# Altium schematic symbol library Angler.SchLib: 199 symbols (part 1 of 2)
Pins are listed as number, name and electrical type; pins without a type are passive.

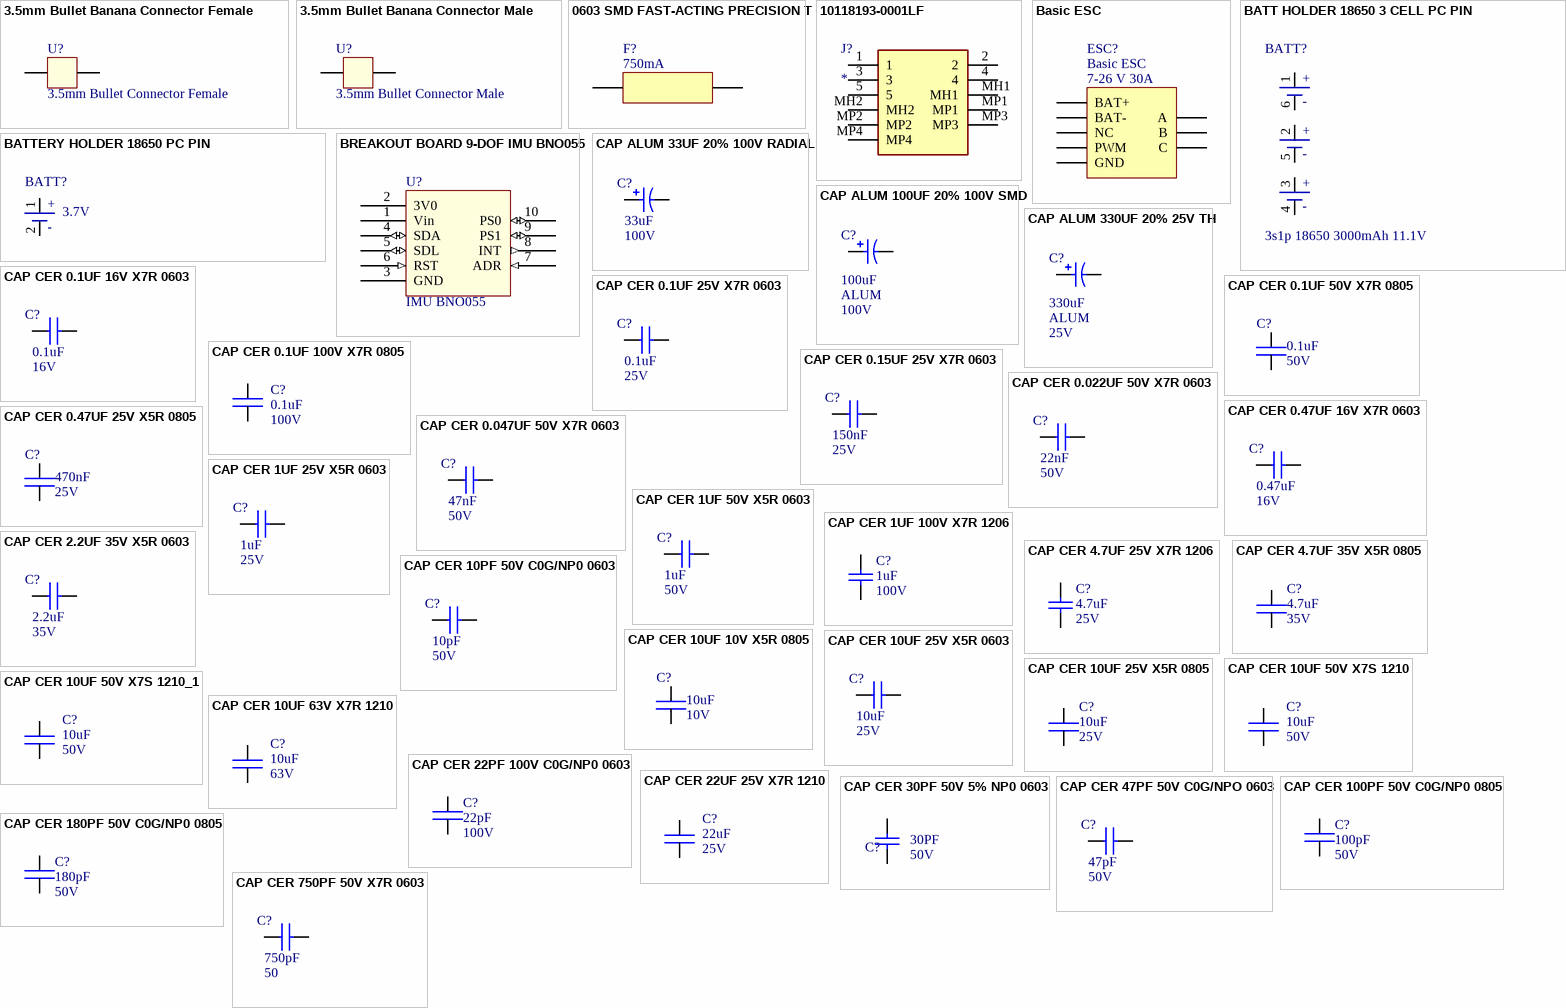
[diagram p0: symbols 3.5mm Bullet Banana Connector Female to CAP CER 750PF 50V X7R 0603]

## 3.5mm Bullet Banana Connector Female
designator U?  value 3.5mm Bullet Connector Female
3.5mm Bullet Banana Connector Female; MFG_PART_NO: B07H3H7Q68; COST1K: 11.50; MFG: ROBOJAX; ROHS: Y
pins: ?1 (power), ?2 (power)

## 3.5mm Bullet Banana Connector Male
designator U?  value 3.5mm Bullet Connector Male
3.5mm Bullet Banana Connector Male; MFG_PART_NO: B07H3H7Q68; COST1K: 11.50; MFG: ROBOJAX; ROHS: Y
pins: ?1 (power), ?2 (power)

## 0603 SMD FAST-ACTING PRECISION T
designator F?  value 750mA
0603 SMD FAST-ACTING PRECISION T; MFG_PART_NO: SF-0603FP075F-2; COST1K: 0.65; MFG: Bourns Inc.; ROHS: Y
pins: ?1 "Cathode", ?2 "Cathode"

## 10118193-0001LF
designator J?
Connector; Manufacturer_Name: Amphenol; Manufacturer_Part_Number: 10118193-0001LF; Allied_Number: 70236827; Datasheet Link: https://componentsearchengine.com/Datasheets/1/10118193-0001LF.pdf; Height: 3.1mm; Mouser Part Number: 649-10118193-0001LF; Mouser Price/Stock: https://www.mouser.com/Search/Refine.aspx?Keyword=649-10118193-0001LF; RS Part Number: 8632989; RS Price/Stock: http://uk.rs-online.com/web/p/products/8632989; Allied Price/Stock: https://www.alliedelec.com/amphenolicc-10118193-0001lf/70236827/
footprint 101181930001LF
pins: 1, 2, 3, 4, 5, MH1, MH2, MP1, MP2, MP3, MP4

## Basic ESC
designator ESC?  value Basic ESC  VOLTAGE: 7-26 V 30A
Basic ESC; MFG_PART_NO: BESC30-R3; COST1K: 25; MFG: Blue Robotics; ROHS: Y
footprint ESC BR
pins: A "Cathode", B "Cathode", BAT+ "Cathode", BAT- "Cathode", C "Cathode", GND "Cathode", NC "Cathode", PWM "Cathode"

## BATT HOLDER 18650 3 CELL PC PIN
designator BATT?  value 3s1p 18650 3000mAh 11.1V
BATT HOLDER 18650 3 CELL PC PIN; MFG: Ltvystore (Amazon); COST: 5.00
footprint BK18650PC6
pins: 1 + (power), 2 + (power), 3 + (power), 4 - (power), 5 - (power), 6 - (power)

## BATTERY HOLDER 18650 PC PIN
designator BATT?  value 3.7V
BATTERY HOLDER 18650 PC PIN; MFG: Ltvystore (Amazon); COST: 1
footprint BH18650PC
pins: 1 + (power), 2 - (power)

## BREAKOUT BOARD 9-DOF IMU BNO055
designator U?  value IMU BNO055
BREAKOUT BOARD 9-DOF IMU BNO055; COST1K: 50; MFG: Adafruit Industries LLC; MFG_PART_NO: BNO055; ROHS: Y
footprint BNO055
pins: 1 Vin (power), 2 3V0 (power), 3 GND (power), 4 SDA (io), 5 SDL (io), 6 RST (in), 7 ADR (in), 8 INT (out), 9 PS1 (io), 10 PS0 (io)

## CAP ALUM 33UF 20% 100V RADIAL
designator C?  value 33uF  VOLTAGE: 100V
CAP ALUM 33UF 20% 100V RADIAL; MFG_PART_NO: UPM2A330MPD1TD; MFG: Nichicon; COST: 0.18; TOLERANCE: 20%; DIELECTRIC: ALUM
footprint CAPPRD350W60D825H1700
pins: 1, 2

## CAP ALUM 100UF 20% 100V SMD
designator C?  value 100uF  DIELECTRIC: ALUM  VOLTAGE: 100V
CAP ALUM 100UF 20% 100V SMD; MFG_PART_NO: EMVY101ARA101MKE0S; MFG: United Chemi-Con; COST: 2.51; TOLERANCE: 20%
footprint CAPAE1300X1400N (Capacitor,Aluminum Electrolytic;13.00mm L X 13.00mm W X 14.00mm H)
pins: 1, 2

## CAP ALUM 330UF 20% 25V TH
designator C?  value 330uF  DIELECTRIC: ALUM  VOLTAGE: 25V
CAP ALUM 330UF 20% 25V TH; MFG_PART_NO: ESL337M025AGMAA; MFG: KEMET; COST: 0.53; TOLERANCE: 20%
footprint CAPPRD350W60D850H1300
pins: 1, 2

## CAP CER 0.1UF 16V X7R 0603
designator C?  value 0.1uF  VOLTAGE: 16V
CAP CER 0.1UF 16V X7R 0603; MFG_PART_NO: C0603C104M4RACTU; MFG: KEMET; TOLERANCE: 20%; COST: 0.14; DIELECTRIC: X7R
footprint CAPC1608X09N (0603, Body 1.6x0.8x0.94mm, IPC Medium Density)
pins: 1, 2

## CAP CER 0.1UF 25V X7R 0603
designator C?  value 0.1uF  VOLTAGE: 25V
CAP CER 0.1UF 25V X7R 0603; MFG_PART_NO: CC0603KRX7R8BB104; MFG: Yageo; TOLERANCE: 10%; COST: 0.14; DIELECTRIC: X7R
footprint CAPC1608X09N (0603, Body 1.6x0.8x0.94mm, IPC Medium Density)
pins: 1, 2

## CAP CER 0.1UF 50V X7R 0805
designator C?  value 0.1uF  VOLTAGE: 50V
CAP CER 0.1UF 50V X7R 0805; MFG_PART_NO: C0805C104M5RACTU; MFG: KEMET; COST: 0.14
footprint CAPC2012X14N (0805, Body 2.00x1.25x1.40mm, IPC Medium Density)
pins: 1, 2

## CAP CER 0.1UF 100V X7R 0805
designator C?  value 0.1uF  VOLTAGE: 100V
CAP CER 0.1UF 100V X7R 0805; MFG_PART_NO: C2012X7R2A104K125AA; MFG: TDK; COST: 0.27
footprint CAPC2012X14N (0805, Body 2.00x1.25x1.40mm, IPC Medium Density)
pins: 1, 2

## CAP CER 0.15UF 25V X7R 0603
designator C?  value 150nF  VOLTAGE: 25V
CAP CER 0.15UF 25V X7R 0603; MFG_PART_NO: 885012206072; MFG: Würth Elektronik; TOLERANCE: 10%; COST: 0.14; DIELECTRIC: X7R
footprint CAPC1608X09N (0603, Body 1.6x0.8x0.94mm, IPC Medium Density)
pins: 1, 2

## CAP CER 0.022UF 50V X7R 0603
designator C?  value 22nF  VOLTAGE: 50V
CAP CER 0.022UF 50V X7R 0603; MFG_PART_NO: CC0603KRX7R9BB223; MFG: Yageo; TOLERANCE: 10%; COST: 0.14; DIELECTRIC: X7R
footprint CAPC1608X09N (0603, Body 1.6x0.8x0.94mm, IPC Medium Density)
pins: 1, 2

## CAP CER 0.47UF 16V X7R 0603
designator C?  value 0.47uF  VOLTAGE: 16V
CAP CER 0.47UF 16V X7R 0603; MFG_PART_NO: CL10B474KO8NNNC; MFG: Samsung; TOLERANCE: 10%; COST: 0.14; DIELECTRIC: X7R
footprint CAPC1608X09N (0603, Body 1.6x0.8x0.94mm, IPC Medium Density)
pins: 1, 2

## CAP CER 0.47UF 25V X5R 0805
designator C?  value 470nF  VOLTAGE: 25V
CAP CER 0.47UF 25V X5R 0805; MFG_PART_NO: ‎TMK212BJ474KD-T‎; MFG: Taiyo Yuden; COST: 0.17
footprint CAPC2012X14N (0805, Body 2.00x1.25x1.40mm, IPC Medium Density)
pins: 1, 2

## CAP CER 0.047UF 50V X7R 0603
designator C?  value 47nF  VOLTAGE: 50V
CAP CER 0.047UF 50V X7R 0603; MFG_PART_NO: CC0603KRX7R9BB473; MFG: Yageo; TOLERANCE: 10%; COST: 0.14; DIELECTRIC: X7R
footprint CAPC1608X09N (0603, Body 1.6x0.8x0.94mm, IPC Medium Density)
pins: 1, 2

## CAP CER 1UF 25V X5R 0603
designator C?  value 1uF  VOLTAGE: 25V
CAP CER 1UF 25V X5R 0603; MFG_PART_NO: CC0603KRX5R8BB105; MFG: Yageo; TOLERANCE: 10%; COST: 0.14; DIELECTRIC: X5R
footprint CAPC1608X09N (0603, Body 1.6x0.8x0.94mm, IPC Medium Density)
pins: 1, 2

## CAP CER 1UF 50V X5R 0603
designator C?  value 1uF  VOLTAGE: 50V
CAP CER 1UF 50V X5R 0603; MFG_PART_NO: CL10A105KB8NNNC; MFG: Samsung Electro-Mechanics; TOLERANCE: 10%; COST: 0.24; DIELECTRIC: X5R
footprint CAPC1608X09N (0603, Body 1.6x0.8x0.94mm, IPC Medium Density)
pins: 1, 2

## CAP CER 1UF 100V X7R 1206
designator C?  value 1uF  VOLTAGE: 100V
CAP CER 1UF 100V X7R 1206; MFG_PART_NO: GRM31CR72A105KA01L; MFG: Murata; TOLERANCE: 10%; DIELECTRIC: X7R; COST: 1.1
footprint CAPC3216X17N (1206, Body 3.2x1.6x1.78mm, IPC Medium Density)
pins: 1, 2

## CAP CER 2.2UF 35V X5R 0603
designator C?  value 2.2uF  VOLTAGE: 35V
CAP CER 2.2UF 35V X5R 0603; MFG_PART_NO: CL10A225KL8NNNC; MFG: Samsung Electro-Mechanics; TOLERANCE: 10%; COST: 0.3; DIELECTRIC: X5R
footprint CAPC1608X09N (0603, Body 1.6x0.8x0.94mm, IPC Medium Density)
pins: 1, 2

## CAP CER 4.7UF 25V X7R 1206
designator C?  value 4.7uF  VOLTAGE: 25V
CAP CER 4.7UF 25V X7R 1206; MFG_PART_NO: GRM31CR71E475KA88L; MFG: Murata; TOLERANCE: 10%; DIELECTRIC: X7R; COST: 0.58
footprint CAPC3216X17N (1206, Body 3.2x1.6x1.78mm, IPC Medium Density)
pins: 1, 2

## CAP CER 4.7UF 35V X5R 0805
designator C?  value 4.7uF  VOLTAGE: 35V
CAP CER 4.7UF 35V X5R 0805; MFG_PART_NO: GRM219R6YA475KA73D; MFG: Murata Electronics; COST: 0.40
footprint CAPC2012X14N (0805, Body 2.00x1.25x1.40mm, IPC Medium Density)
pins: 1, 2

## CAP CER 10PF 50V C0G/NP0 0603
designator C?  value 10pF  VOLTAGE: 50V
CAP CER 10PF 50V C0G/NP0 0603; MFG_PART_NO: 0603N100F500CT; MFG: Walsin Technology Corporation; DIELECTRIC: C0G; TOLERANCE: 10%; COST: 0.14
footprint CAPC1608X09N (0603, Body 1.6x0.8x0.94mm, IPC Medium Density)
pins: 1, 2

## CAP CER 10UF 10V X5R 0805
designator C?  value 10uF  VOLTAGE: 10V
CAP CER 10UF 10V X5R 0805; MFG_PART_NO: C0805C106K8PACTU; MFG: KEMET; COST: 0.23
footprint CAPC2012X14N (0805, Body 2.00x1.25x1.40mm, IPC Medium Density)
pins: 1, 2

## CAP CER 10UF 25V X5R 0603
designator C?  value 10uF  VOLTAGE: 25V
CAP CER 10UF 25V X5R 0603; MFG_PART_NO: C1608X5R1E106M080AC; MFG: KEMET; TOLERANCE: 20%; COST: 0.14; DIELECTRIC: X5R
footprint CAPC1608X09N (0603, Body 1.6x0.8x0.94mm, IPC Medium Density)
pins: 1, 2

## CAP CER 10UF 25V X5R 0805
designator C?  value 10uF  VOLTAGE: 25V
CAP CER 10UF 25V X5R 0805; MFG_PART_NO: C0805C106K3PAC7800; MFG: KEMET; COST: 0.34
footprint CAPC2012X14N (0805, Body 2.00x1.25x1.40mm, IPC Medium Density)
pins: 1, 2

## CAP CER 10UF 50V X7S 1210
designator C?  value 10uF  VOLTAGE: 50V
CAP CER 10UF 50V X7S 1210; MFG_PART_NO: UMK325C7106MM-T; MFG: Taiyo Yuden; TOLERANCE: 20%; COST: 1.14; DIELECTRIC: X7S
footprint CAPC3225X28N (1210, Body 3.20x2.50x2.8mm, IPC Medium Density)
pins: 1, 2

## CAP CER 10UF 50V X7S 1210_1
designator C?  value 10uF  VOLTAGE: 50V
CAP CER 10UF 50V X7S 1210; MFG_PART_NO: UMK325C7106MM-T; MFG: Taiyo Yuden; TOLERANCE: 20%; COST: 1.14; DIELECTRIC: X7S
footprint CAPC3225X28N (1210, Body 3.20x2.50x2.8mm, IPC Medium Density)
pins: 1, 2

## CAP CER 10UF 63V X7R 1210
designator C?  value 10uF  VOLTAGE: 63V
CAP CER 10UF 63V X7R 1210; MFG_PART_NO: CL32B106KMVNNWE; MFG: Samsung; TOLERANCE: 10%; COST: 1.15; DIELECTRIC: X7R
footprint CAPC3225X28N (1210, Body 3.20x2.50x2.8mm, IPC Medium Density)
pins: 1, 2

## CAP CER 22PF 100V C0G/NP0 0603
designator C?  value 22pF  VOLTAGE: 100V
CAP CER 22PF 100V C0G/NP0 0603; MFG_PART_NO: C0603C220J1GACTU; MFG: KEMET; COST: 0.14
footprint CAPC1608X09N (0603, Body 1.6x0.8x0.94mm, IPC Medium Density)
pins: 1, 2

## CAP CER 22UF 25V X7R 1210
designator C?  value 22uF  VOLTAGE: 25V
CAP CER 22UF 25V X7R 1210; MFG_PART_NO: TMK325B7226KMHP; MFG: Taiyo Yuden; TOLERANCE: 20%; DIELECTRIC: X7S; COST: 1.55
footprint CAPC3225X28N (1210, Body 3.20x2.50x2.8mm, IPC Medium Density)
pins: 1, 2

## CAP CER 30PF 50V 5% NP0 0603
designator C?  value 30PF  VOLTAGE: 50V
CAP CER 30PF 50V 5% NP0 0603; MFG_PART_NO: CL10C300JB8NNNC; PART_CATEGORY: Capacitors; COST1K: 0.02; MFG: Samsung; TEMP COEFFICIENT: NPO; ROHS: Y; TOLERANCE: 5%; DIELECTRIC: NPO; Supplier 1: Digi-Key; Supplier Part Number 1: --
footprint CC_0603_M
footprint CAPC1608X09N
pins: 1, 2

## CAP CER 47PF 50V C0G/NPO 0603
designator C?  value 47pF  VOLTAGE: 50V
CAP CER 47PF 50V C0G/NPO 0603; MFG_PART_NO: CC0603JRNPO9BN470; MFG: Yageo; DIELECTRIC: C0G; TOLERANCE: 5%; COST: 0.14
footprint CAPC1608X09N (0603, Body 1.6x0.8x0.94mm, IPC Medium Density)
pins: 1, 2

## CAP CER 100PF 50V C0G/NP0 0805
designator C?  value 100pF  VOLTAGE: 50V
CAP CER 100PF 50V C0G/NP0 0805; MFG_PART_NO: CL21C101JBANNNC; MFG: Samsung; COST: 0.14
footprint CAPC2012X14N (0805, Body 2.00x1.25x1.40mm, IPC Medium Density)
pins: 1, 2

## CAP CER 180PF 50V C0G/NP0 0805
designator C?  value 180pF  VOLTAGE: 50V
CAP CER 180PF 50V C0G/NP0 0805; MFG_PART_NO: CL21C181JBANNNC; MFG: Samsung; COST: 0.14
footprint CAPC2012X14N (0805, Body 2.00x1.25x1.40mm, IPC Medium Density)
pins: 1, 2

## CAP CER 750PF 50V X7R 0603
designator C?  value 750pF  VOLTAGE: 50
CAP CER 750PF 50V X7R 0603; MFG_PART_NO: CC0603KRX7R9BB751; MFG: Yageo; TOLERANCE: 10%; COST: 0.16; DIELECTRIC: X7R
footprint CAPC1608X09N (0603, Body 1.6x0.8x0.94mm, IPC Medium Density)
pins: 1, 2

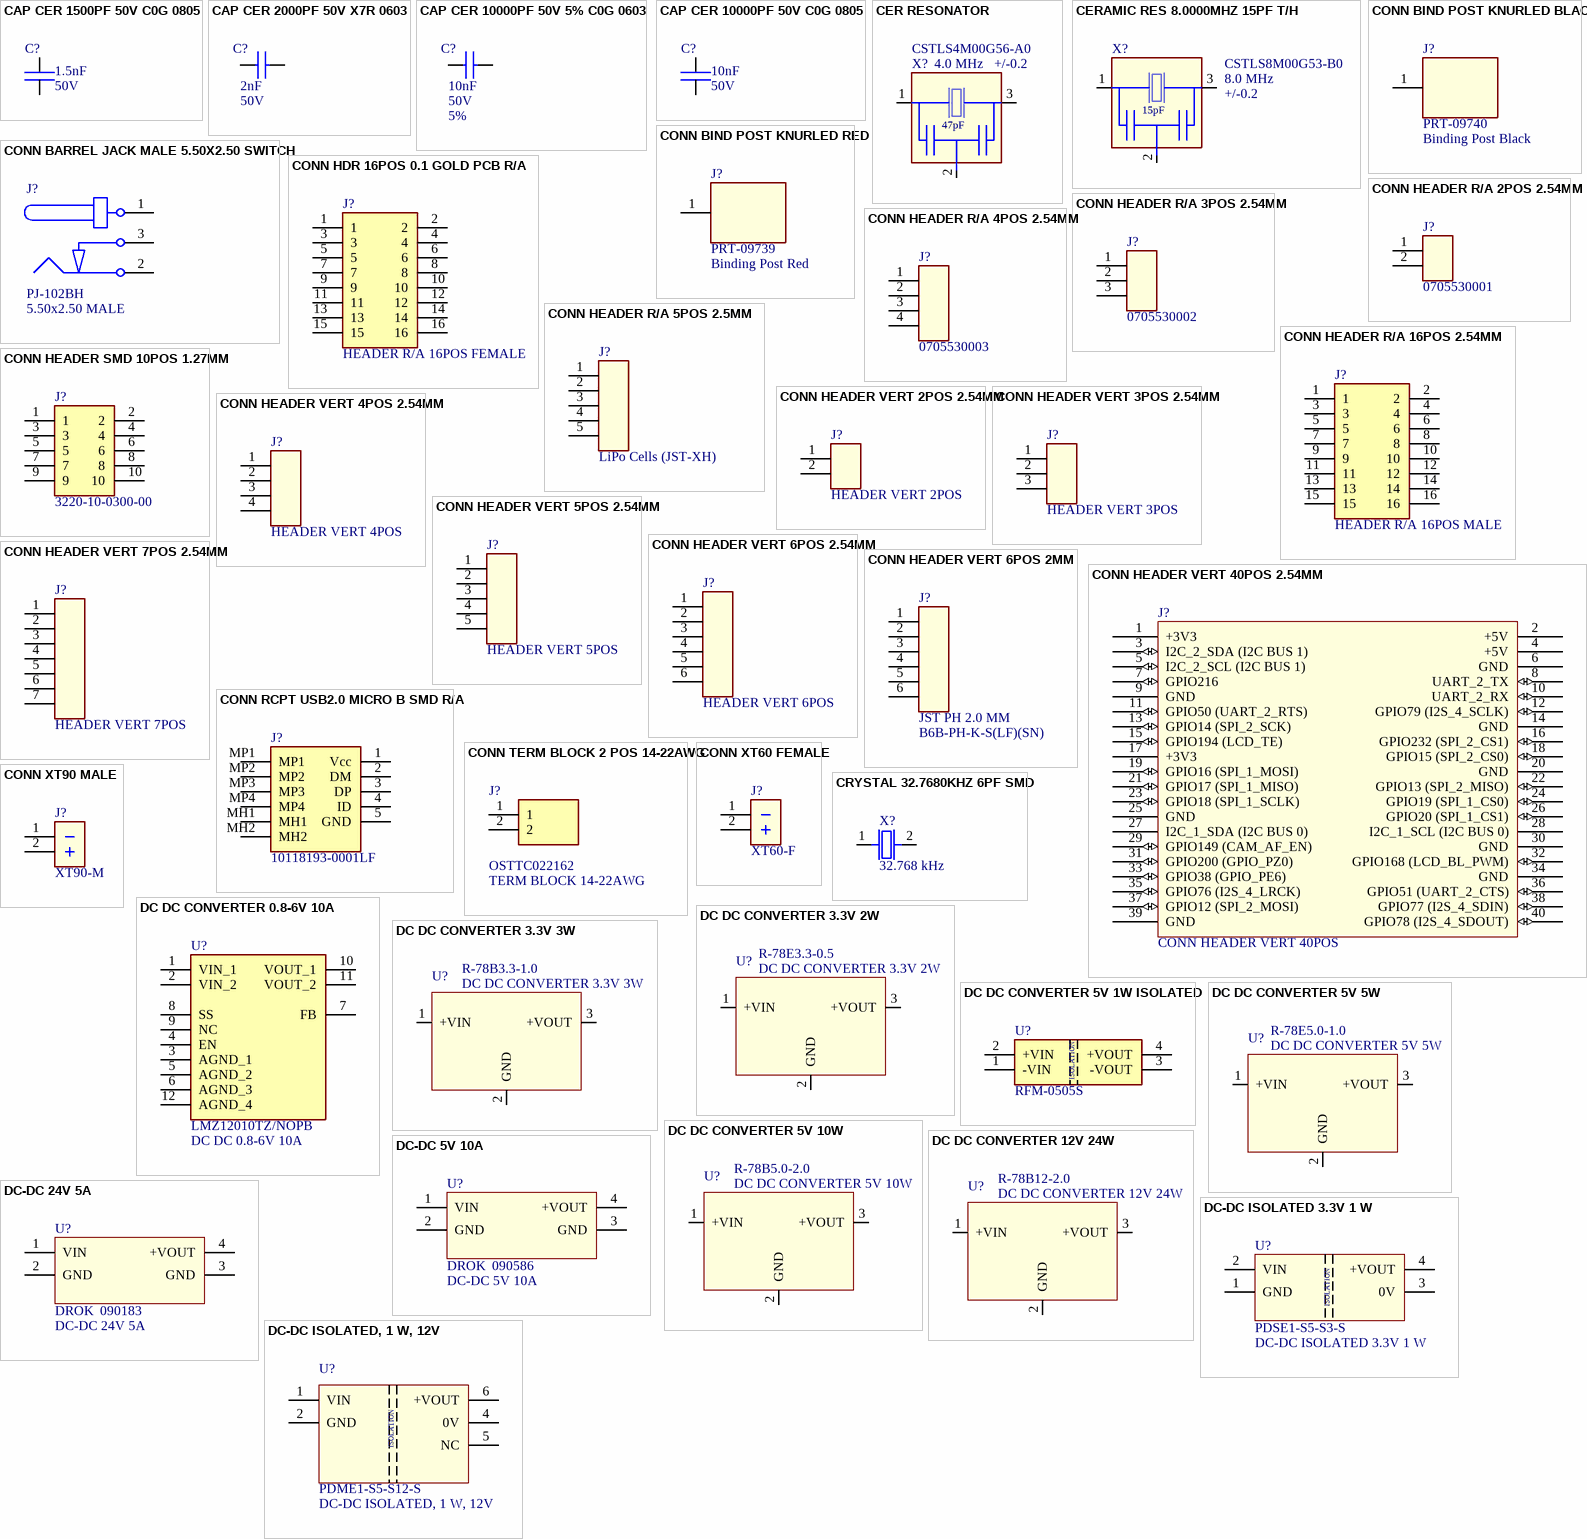
[diagram p1: symbols CAP CER 1500PF 50V C0G 0805 to DC-DC ISOLATED, 1 W, 12V]

## CAP CER 1500PF 50V C0G 0805
designator C?  value 1.5nF  VOLTAGE: 50V
CAP CER 1500PF 50V C0G 0805; MFG_PART_NO: C2012C0G1H152J060AA; MFG: TDK Corporation; COST: 0.23
footprint CAPC2012X14N (0805, Body 2.00x1.25x1.40mm, IPC Medium Density)
pins: 1, 2

## CAP CER 2000PF 50V X7R 0603
designator C?  value 2nF  VOLTAGE: 50V
CAP CER 2000PF 50V X7R 0603; MFG_PART_NO: CC0603KRX7R9BB202; MFG: Yageo; TOLERANCE: 10%; COST: 0.14; DIELECTRIC: X7R
footprint CAPC1608X09N (0603, Body 1.6x0.8x0.94mm, IPC Medium Density)
pins: 1, 2

## CAP CER 10000PF 50V 5% C0G 0603
designator C?  value 10nF  TOLERANCE: 5%  VOLTAGE: 50V
CAP CER 10000PF 50V 5% C0G 0603; MFG_PART_NO: GRM1885C1H103JA01D; MFG: Murata; DIELECTRIC: C0G/NP0; COST: 0.3
footprint CAPC1608X09N (0603, Body 1.6x0.8x0.94mm, IPC Medium Density)
pins: 1, 2

## CAP CER 10000PF 50V C0G 0805
designator C?  value 10nF  VOLTAGE: 50V
CAP CER 10000PF 50V C0G 0805; MFG_PART_NO: CGA4C2C0G1H103J060AA; MFG: TDK Corporation; COST: 0.23
footprint CAPC2012X14N (0805, Body 2.00x1.25x1.40mm, IPC Medium Density)
pins: 1, 2

## CER RESONATOR
designator X?  value 4.0 MHz  MFG_PART_NO: CSTLS4M00G56-A0  STABILITY: +/-0.2
CER RESONATOR; TOLERANCE: +/-0.5; COST: 0.34; MFG: CER RESONATOR
footprint CSTLS4M00G56-A0
pins: 1, 2, 3
text: 47pF

## CERAMIC RES 8.0000MHZ 15PF T/H
designator X?  value 8.0 MHz  MFG_PART_NO: CSTLS8M00G53-B0  STABILITY: +/-0.2
CERAMIC RES 8.0000MHZ 15PF T/H; MFG: Murata Electronics; TOLERANCE: +/-0.5; COST: 0.31
footprint CSTLS4M00G56-A0
pins: 1, 2, 3
text: 15pF

## CONN BARREL JACK MALE 5.50X2.50 SWITCH
designator J?  value 5.50x2.50 MALE  MFG_PART_NO: PJ-102BH
CONN BARREL JACK MALE 5.50X2.50 SWITCH; MFG: CUI Devices; COST: 1.08
footprint PJ-102BH
pins: 1, 2, 3

## CONN BIND POST KNURLED BLACK
designator J?  value Binding Post Black  MFG_PART_NO: PRT-09740
CONN BIND POST KNURLED BLACK; MFG: SparkFun Electronics; COST: 0.49
footprint PRT-09740 (Binding Post Black)
pins: 1 (power)

## CONN BIND POST KNURLED RED
designator J?  value Binding Post Red  MFG_PART_NO: PRT-09739
CONN BIND POST KNURLED RED; MFG: SparkFun Electronics; COST: 0.49
footprint PRT-09739 (Binding Post Red)
pins: 1 (power)

## CONN HDR 16POS 0.1 GOLD PCB R/A
designator J?  value HEADER R/A 16POS FEMALE
CONN HDR 16POS 0.1 GOLD PCB R/A; MFG_PART_NO: PPPC082LJBN-RC; MFG: Sullins Connector Solutions; COST: 1.96
footprint PPPC082LJBN-RC
pins: 1, 2, 3, 4, 5, 6, 7, 8, 9, 10, 11, 12, 13, 14, 15, 16

## CONN HEADER R/A 2POS 2.54MM
designator J?  value 0705530001
CONN HEADER R/A 2POS 2.54MM; MFG: Molex; COST: 1.12; MFG_PART_NO: 0705530001
footprint SHDRRA2W109P0_254_1X2_762X1359X699P
pins: 1, 2

## CONN HEADER R/A 3POS 2.54MM
designator J?  value 0705530002
CONN HEADER R/A 3POS 2.54MM; MFG: Molex; COST: 1.47; MFG_PART_NO: 0705530002
footprint SHDR3W89P0X254_1X3_1017X1359X699P
pins: 1, 2, 3

## CONN HEADER R/A 4POS 2.54MM
designator J?  value 0705530003
CONN HEADER R/A 4POS 2.54MM; MFG: Molex; COST: 1.51; MFG_PART_NO: 0705530003
footprint SHDR4W97P0X254_1X4_1271X1359X699P
pins: 1, 2, 3, 4

## CONN HEADER R/A 5POS 2.5MM
designator J?  value LiPo Cells (JST-XH)
CONN HEADER R/A 5POS 2.5MM; MFG_PART_NO: S5B-XH-A(LF)(SN); MFG: JST Sales America Inc.; COST: 0.43
footprint SHDR5W64P0X250_1X5_1490X1150X610P
pins: 1, 2, 3, 4, 5

## CONN HEADER R/A 16POS 2.54MM
designator J?  value HEADER R/A 16POS MALE
CONN HEADER R/A 16POS 2.54MM; MFG_PART_NO: PRPC008DBAN-M71RC; MFG: Sullins Connector Solutions; COST: 1.04
footprint PRPC008DBAN-M71RC
pins: 1, 2, 3, 4, 5, 6, 7, 8, 9, 10, 11, 12, 13, 14, 15, 16

## CONN HEADER SMD 10POS 1.27MM
designator J?  MFG_PART_NO: 3220-10-0300-00
CONN HEADER SMD 10POS 1.27MM; MFG: CNC Tech; VALUE: 3220-10-0300-00; COST: 1.05
footprint 3220-10-0300-00
pins: 1, 2, 3, 4, 5, 6, 7, 8, 9, 10

## CONN HEADER VERT 2POS 2.54MM
designator J?  value HEADER VERT 2POS
CONN HEADER VERT 2POS 2.54MM; MFG_PART_NO: 61300211121; MFG: Wurth Electronics Inc.; COST: 0.18
footprint 61300211121
pins: 1, 2

## CONN HEADER VERT 3POS 2.54MM
designator J?  value HEADER VERT 3POS
CONN HEADER VERT 3POS 2.54MM; MFG_PART_NO: 61300311121; MFG: Wurth Electronics Inc.; COST: 0.18
footprint 61300311121
pins: 1, 2, 3

## CONN HEADER VERT 4POS 2.54MM
designator J?  value HEADER VERT 4POS
CONN HEADER VERT 4POS 2.54MM; MFG_PART_NO: 61300411121; MFG: Wurth Electronics Inc.; COST: 0.26
pins: 1, 2, 3, 4

## CONN HEADER VERT 5POS 2.54MM
designator J?  value HEADER VERT 5POS
CONN HEADER VERT 5POS 2.54MM; MFG_PART_NO: 61300511121; MFG: Wurth Electronics Inc.; COST: 0.36
footprint 61300511121
pins: 1, 2, 3, 4, 5

## CONN HEADER VERT 6POS 2.54MM
designator J?  value HEADER VERT 6POS
CONN HEADER VERT 6POS 2.54MM; MFG_PART_NO: 61300611121; MFG: Wurth Electronics Inc.; COST: 0.47
footprint 61300611121
pins: 1, 2, 3, 4, 5, 6

## CONN HEADER VERT 6POS 2MM
designator J?  value JST PH 2.0 MM  MFG_PART_NO: B6B-PH-K-S(LF)(SN)
CONN HEADER VERT 6POS 2MM; MFG: JST Sales America Inc.; COST: 0.47
footprint SHDR6W50P0X200_1X6_1390X450X600P
pins: 1, 2, 3, 4, 5, 6

## CONN HEADER VERT 7POS 2.54MM
designator J?  value HEADER VERT 7POS
CONN HEADER VERT 7POS 2.54MM; MFG_PART_NO: 61300711121; MFG: Wurth Electronics Inc.; COST: 0.53
footprint 61300711121
pins: 1, 2, 3, 4, 5, 6, 7

## CONN HEADER VERT 40POS 2.54MM
designator J?  value CONN HEADER VERT 40POS
CONN HEADER VERT 40POS 2.54MM; MFG_PART_NO: 67997-140HLF; MFG: Amphenol; COST: 4.1
footprint 67997-140HLF (CONN HEADER VERT 40POS)
pins: 1 +3V3 (power), 2 +5V (power), 3 I2C_2_SDA (I2C BUS 1) (io), 4 +5V (power), 5 I2C_2_SCL (I2C BUS 1) (io), 6 GND (power), 7 GPIO216 (io), 8 UART_2_TX (io), 9 GND (power), 10 UART_2_RX (io), 11 GPIO50 (UART_2_RTS) (io), 12 GPIO79 (I2S_4_SCLK) (io), 13 GPIO14 (SPI_2_SCK) (io), 14 GND (power), 15 GPIO194 (LCD_TE) (io), 16 GPIO232 (SPI_2_CS1) (io), 17 +3V3 (power), 18 GPIO15 (SPI_2_CS0) (io), 19 GPIO16 (SPI_1_MOSI) (io), 20 GND (power), 21 GPIO17 (SPI_1_MISO) (io), 22 GPIO13 (SPI_2_MISO) (io), 23 GPIO18 (SPI_1_SCLK) (io), 24 GPIO19 (SPI_1_CS0) (io), 25 GND (power), 26 GPIO20 (SPI_1_CS1) (io), 27 I2C_1_SDA (I2C BUS 0), 28 I2C_1_SCL (I2C BUS 0), 29 GPIO149 (CAM_AF_EN) (io), 30 GND (power), 31 GPIO200 (GPIO_PZ0) (io), 32 GPIO168 (LCD_BL_PWM) (io), 33 GPIO38 (GPIO_PE6) (io), 34 GND, 35 GPIO76 (I2S_4_LRCK) (io), 36 GPIO51 (UART_2_CTS) (io), 37 GPIO12 (SPI_2_MOSI) (io), 38 GPIO77 (I2S_4_SDIN) (io), 39 GND (power), 40 GPIO78 (I2S_4_SDOUT) (io)

## CONN RCPT USB2.0 MICRO B SMD R/A
designator J?  value 10118193-0001LF
CONN RCPT USB2.0 MICRO B SMD R/A; MFG: Amphenol ICC (FCI); COST: 0.61; MFG_PART_NO: 10118193-0001LF
footprint 101181930001LF
pins: 1 Vcc, 2 DM, 3 DP, 4 ID, 5 GND, MH1, MH2, MP1, MP2, MP3, MP4

## CONN TERM BLOCK 2 POS 14-22AWG
designator J?  value TERM BLOCK 14-22AWG  MFG_PART_NO: OSTTC022162
CONN TERM BLOCK 2 POS 14-22AWG BLUE 5.08MM; MFG: On Shore Technology Inc.; COST: 0.98
footprint SHDR2W95P0X508_1X2
pins: 1, 2

## CONN XT60 FEMALE
designator J?  value XT60-F
CONN XT60 FEMALE; MFG_PART_NO: FIT0587; MFG: DFRobot; COST: 2.18
footprint XT60 (XT60 Connector)
pins: 1, 2

## CONN XT90 MALE
designator J?  value XT90-M
CONN XT90 MALE; MFG_PART_NO: FIT0588; MFG: DFRobot; COST: 5.66000
footprint XT90 (XT90 Connector)
pins: 1, 2

## CRYSTAL 32.7680KHZ 6PF SMD
designator X?  value 32.768 kHz
CRYSTAL 32.7680KHZ 6PF SMD; MFG_PART_NO: NX3215SA-32.768K-STD-MUA-14; MFG: NDK America, Inc.; TOLERANCE: +/-20ppm; COST: 1.03
footprint NX3215SA32768KSTDMUA14
pins: 1, 2

## DC DC CONVERTER 0.8-6V 10A
designator U?  value DC DC 0.8-6V 10A  MFG_PART_NO: LMZ12010TZ/NOPB
DC DC CONVERTER 0.8-6V 10A; MFG: TI; COST: 24.09
footprint LMZ12010TZENOPB
pins: 1 VIN_1, 2 VIN_2, 3 AGND_1, 4 EN, 5 AGND_2, 6 AGND_3, 7 FB, 8 SS, 9 NC, 10 VOUT_1, 11 VOUT_2, 12 AGND_4

## DC DC CONVERTER 3.3V 2W
designator U?  value DC DC CONVERTER 3.3V 2W  MFG_PART_NO: R-78E3.3-0.5
DC DC CONVERTER 3.3V 2W; MFG: Recom Power; COST: 3.86
footprint SHDRV3W100P0_254_1X3_1160X850X1040P
pins: 1 +VIN (power), 2 GND (power), 3 +VOUT (power)

## DC DC CONVERTER 3.3V 3W
designator U?  value DC DC CONVERTER 3.3V 3W  MFG_PART_NO: R-78B3.3-1.0
DC DC CONVERTER 3.3V 3W; MFG: Recom Power; COST: 12.72
footprint DC_Module_TH_R-78Bxx-1.0 (Recom, DC/DC Converter, 3-pin 2.54mm pitch)
pins: 1 +VIN (power), 2 GND (power), 3 +VOUT (power)

## DC DC CONVERTER 5V 1W ISOLATED
designator U?  value RFM-0505S
DC DC CONVERTER 5V 1W ISOLATED; MFG: Recom Power; MFG_PART_NO: RFM-0505S; COST: 2
footprint RFM0505S
pins: 1 -VIN (power), 2 +VIN (power), 3 -VOUT (power), 4 +VOUT (power)
text: ISOLATION

## DC DC CONVERTER 5V 5W
designator U?  value DC DC CONVERTER 5V 5W  MFG_PART_NO: R-78E5.0-1.0
DC DC CONVERTER 5V 5W; MFG: Recom Power; COST: 4.94
footprint SHDRV3W100P0_254_1X3_1160X850X1040P
pins: 1 +VIN (power), 2 GND (power), 3 +VOUT (power)

## DC DC CONVERTER 5V 10W
designator U?  value DC DC CONVERTER 5V 10W  MFG_PART_NO: R-78B5.0-2.0
DC DC CONVERTER 5V 10W; MFG: Recom Power; COST: 12.72
footprint DC_Module_TH_R-78Bxx-1.0 (Recom, DC/DC Converter, 3-pin 2.54mm pitch)
pins: 1 +VIN (power), 2 GND (power), 3 +VOUT (power)

## DC DC CONVERTER 12V 24W
designator U?  value DC DC CONVERTER 12V 24W  MFG_PART_NO: R-78B12-2.0
DC DC CONVERTER 12V 24W; MFG: Recom Power; COST: 14.18
footprint R-78B12-2.0
pins: 1 +VIN (power), 2 GND (power), 3 +VOUT (power)

## DC-DC 5V 10A
designator U?  value DC-DC 5V 10A  MFG: DROK  MFG_PART_NO: 090586
DC-DC 5V 10A; COST: 15
footprint DROK 090586 5V 10A
pins: 1 VIN (power), 2 GND (power), 3 GND (power), 4 +VOUT (power)

## DC-DC 24V 5A
designator U?  value DC-DC 24V 5A  MFG: DROK  MFG_PART_NO: 090183
DC-DC 24V 5A; COST: 30
footprint DROK 090183 24V 5A
pins: 1 VIN (power), 2 GND (power), 3 GND (power), 4 +VOUT (power)

## DC-DC ISOLATED 3.3V 1 W
designator U?  value DC-DC ISOLATED 3.3V 1 W  MFG_PART_NO: PDSE1-S5-S3-S
DC-DC ISOLATED 3.3V 1 W; MFG: CUI Inc.; COST: 3.07
footprint PDSE1S5S3S
pins: 1 GND (power), 2 VIN (power), 3 0V (power), 4 +VOUT (power)
text: ISOLATION

## DC-DC ISOLATED, 1 W, 12V
designator U?  value DC-DC ISOLATED, 1 W, 12V  MFG_PART_NO: PDME1-S5-S12-S
DC-DC ISOLATED, 1 W, 12V; MFG: CUI Inc.; COST: 3.41
footprint CONV_PDME1-S5-S12-S
pins: 1 VIN (power), 2 GND (power), 4 0V (power), 5 NC (power), 6 +VOUT (power)
text: ISOLATION

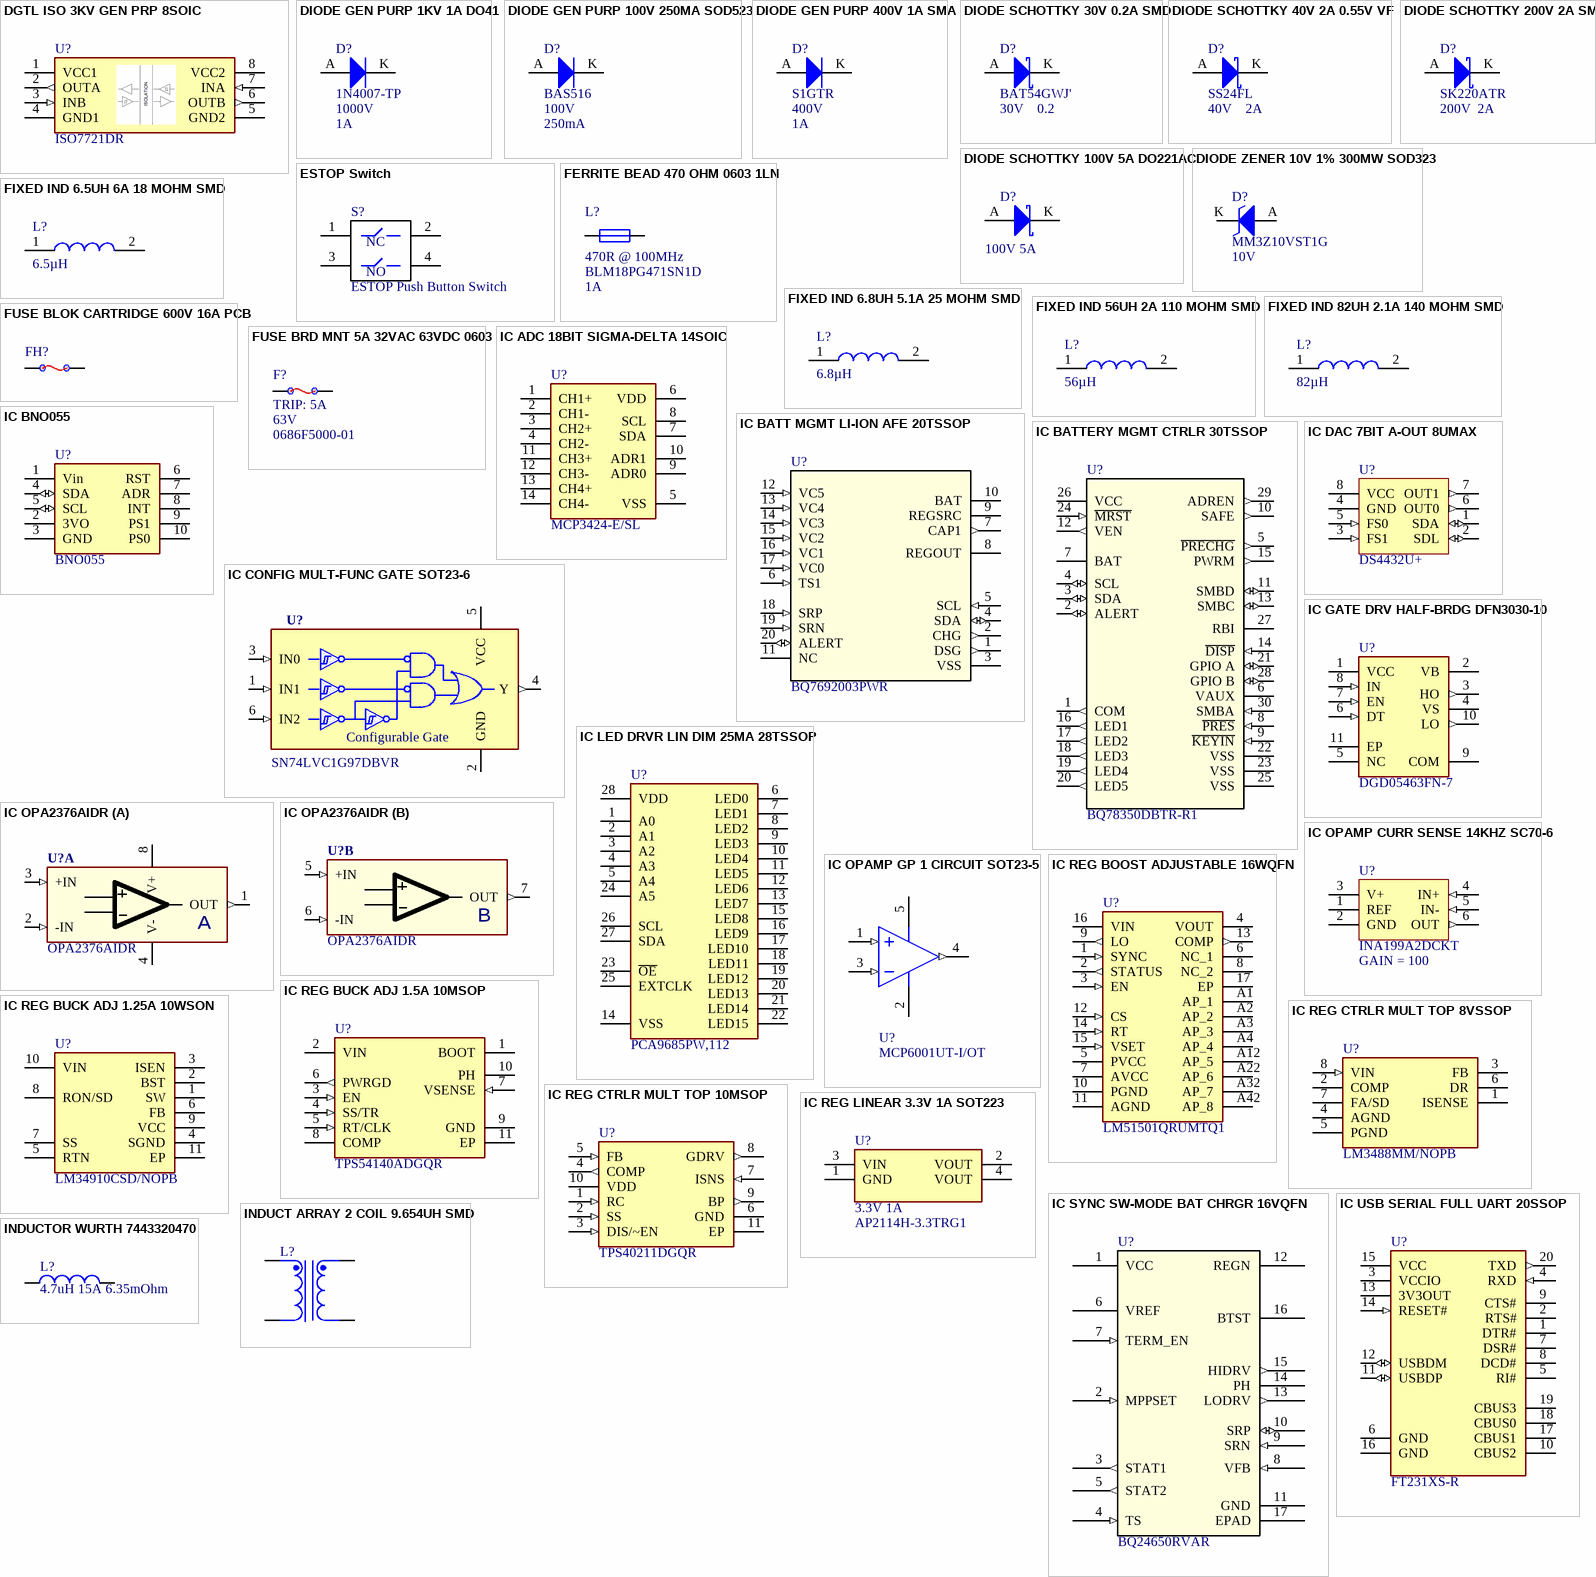
[diagram p2: symbols DGTL ISO 3KV GEN PRP 8SOIC to INDUCTOR WURTH 7443320470]

## DGTL ISO 3KV GEN PRP 8SOIC
designator U?  value ISO7721DR
DGTL ISO 3KV GEN PRP 8SOIC; MFG: Texas Instruments; MFG_PART_NO: ISO7721DR; COST: 2.85
footprint SOIC127P1150X280-8N
pins: 1 VCC1 (power), 2 OUTA (out), 3 INB (in), 4 GND1 (power), 5 GND2 (power), 6 OUTB (out), 7 INA (in), 8 VCC2 (power)

## DIODE GEN PURP 1KV 1A DO41
designator D?  value 1N4007-TP  CURRENT: 1A  VR: 1000V
DIODE GEN PURP 1KV 1A DO41; MFG: Micro Commercial Co; COST: 0.14; MFG_PART_NO: 1N4007-TP
footprint DIOAD1405W90L465D235
pins: A, K

## DIODE GEN PURP 100V 250MA SOD523
designator D?  value BAS516  CURRENT: 250mA  VR: 100V
DIODE GEN PURP 100V 250MA SOD523; MFG_PART_NO: BAS516,115; MFG: Nexperia; COST1K: 0.3
footprint SODFL160X65-2N_BAS516 (SODFL, 2-Leads, Body 0.80x1.60mm, IPC Medium Density)
pins: A, K

## DIODE GEN PURP 400V 1A SMA
designator D?  value S1GTR  CURRENT: 1A  VR: 400V
DIODE GEN PURP 400V 1A SMA; MFG: SMC Diode Solutions; COST: 0.17; MFG_PART_NO: S1GTR
footprint DIOM5226X295N
pins: A, K

## DIODE SCHOTTKY 30V 0.2A SMD
designator D?  value BAT54GWJ'  CURRENT: 0.2  VR: 30V
DIODE SCHOTTKY 30V 0.2A SMD 2uA @ 25V; MFG_PART_NO: BAT54GWJ; MFG: Nexperia USA Inc.; VF: 400mV @ 10mA; COST: 0.2
footprint SOD-123_BAT54GWJ
pins: A, K

## DIODE SCHOTTKY 40V 2A 0.55V VF
designator D?  value SS24FL  CURRENT: 2A  VR: 40V
DIODE SCHOTTKY 40V 2A 0.55V VF; MFG: ON Semiconductor; COST: 0.46; MFG_PART_NO: SS24FL; VF: 0.55V
footprint SODFL3617X108N
pins: A, K

## DIODE SCHOTTKY 100V 5A DO221AC
designator D?  value 100V 5A
DIODE SCHOTTKY 100V 5A DO221AC; MFG_PART_NO: VSSAF510-M3/H; MFG: Vishay; VF: 750mV; COST: 0.55; CURRENT: 5A; VR: 100V
footprint SODFL5226X100N
pins: A, K

## DIODE SCHOTTKY 200V 2A SMA
designator D?  value SK220ATR  CURRENT: 2A  VR: 200V
DIODE SCHOTTKY 200V 2A SMA; MFG: SMC Diode Solutions; VF: 0.9V; COST: 0.5; MFG_PART_NO: SK220ATR
footprint DIOM5226X295N
pins: A, K

## DIODE ZENER 10V 1% 300MW SOD323
designator D?  value MM3Z10VST1G  VZ: 10V
DIODE ZENER 10V 1% 300MW SOD323; MFG: ON Semiconductor; COST: 0.18; MFG_PART_NO: MM3Z10VST1G
footprint SOD-323_MM3ZxxxST1G
pins: A, K

## ESTOP Switch
designator S?  value ESTOP Push Button Switch
ESTOP Switch; MFG_PART_NO: a14041700ux0692; COST1K: 12; MFG: uxell; ROHS: Y
pins: 1, 2, 3, 4
text: NC; NO

## FERRITE BEAD 470 OHM 0603 1LN
designator L?  value 470R @ 100MHz  MFG_PART_NO: BLM18PG471SN1D  CURRENT: 1A
FERRITE BEAD 470 OHM 0603 1LN; MFG: Murata; DCR: 0R2; COST: 0.14
footprint INDC1608X10N (0603, Body 1.5x0.8x1.0mm, IPC Medium Density)
pins: 1, 2

## FIXED IND 6.5UH 6A 18 MOHM SMD
designator L?  value 6.5µH
FIXED IND 6.5UH 6A 18 MOHM SMD; MFG_PART_NO: SRR1208-6R5ML; MFG: Bourns Inc.; TOLERANCE: 20%; COST: 1.72
footprint INDPM127127X850N
pins: 1, 2

## FIXED IND 6.8UH 5.1A 25 MOHM SMD
designator L?  value 6.8µH
FIXED IND 6.8UH 5.1A 25 MOHM SMD; MFG_PART_NO: SRN8040TA-6R8M; MFG: Bourns Inc.; TOLERANCE: 20%; COST: 1.12
footprint SRN8040TA-6R8M
pins: 1, 2

## FIXED IND 56UH 2A 110 MOHM SMD
designator L?  value 56µH
FIXED IND 56UH 2A 110 MOHM SMD; MFG_PART_NO: SRR1208-560YL; MFG: Bourns Inc.; TOLERANCE: 15; COST: 1.72
footprint INDPM127127X850N
pins: 1, 2

## FIXED IND 82UH 2.1A 140 MOHM SMD
designator L?  value 82µH
FIXED IND 82UH 2.1A 140 MOHM SMD; MFG_PART_NO: SDR1307-820KL; MFG: Bourns Inc.; TOLERANCE: 10%; COST: 1.59
footprint SDR1307120ML
pins: 1, 2

## FUSE BLOK CARTRIDGE 600V 16A PCB
designator FH?
FUSE BLOK CARTRIDGE 600V 16A PCB; MFG_PART_NO: 0031.8231; MFG: Schurter Inc.; HOLD: 14A; VALUE: Fuse Holder; TRIP: 15A; COST: 2.89; VOLTAGE: 600V
footprint FUSE-HOLDER(5X20)
pins: 1, 2

## FUSE BRD MNT 5A 32VAC 63VDC 0603
designator F?  value 0686F5000-01  TRIP: 5A  VOLTAGE: 63V
FUSE BRD MNT 5A 32VAC 63VDC 0603; MFG: Yageo; TOLERANCE: 1%; COST: Bel Fuse Inc.; MFG_PART_NO: 0686F5000-01; HOLD: 5A
footprint RESC1608X06N (0603, Body 1.5x0.8x0.55mm, IPC Medium Density)
pins: 1, 2

## IC ADC 18BIT SIGMA-DELTA 14SOIC
designator U?  MFG_PART_NO: MCP3424-E/SL
IC ADC 18BIT SIGMA-DELTA 14SOIC; MFG: Microchip Technology; VALUE: MCP3424-E/SL; COST: 5.98
footprint SOIC127P600X175-14N
pins: 1 CH1+, 2 CH1-, 3 CH2+, 4 CH2-, 5 VSS (power), 6 VDD (power), 7 SDA, 8 SCL, 9 ADR0, 10 ADR1, 11 CH3+, 12 CH3-, 13 CH4+, 14 CH4-

## IC BATT MGMT LI-ION AFE 20TSSOP
designator U?  MFG_PART_NO: BQ7692003PWR
IC BATT MGMT LI-ION AFE 20TSSOP; MFG: Texas Instruments; VALUE: BQ7692003PWR; COST: 4.39
footprint PW0020A_L
pins: 1 DSG (out), 2 CHG (out), 3 VSS (power), 4 SDA (io), 5 SCL (in), 6 TS1 (in), 7 CAP1 (out), 8 REGOUT (power), 9 REGSRC (power), 10 BAT (power), 11 NC, 12 VC5 (in), 13 VC4 (in), 14 VC3 (in), 15 VC2 (in), 16 VC1 (in), 17 VC0 (in), 18 SRP (in), 19 SRN (in), 20 ALERT (io)

## IC BATTERY MGMT CTRLR 30TSSOP
designator U?  MFG_PART_NO: BQ78350DBTR-R1
IC BATTERY MGMT CTRLR 30TSSOP; MFG: Texas Instruments; VALUE: BQ78350DBTR-R1; COST: 7.36
footprint DBT0030A_M
pins: 1 COM (out), 2 ALERT (io), 3 SDA (io), 4 SCL (io), 5 ~{PRECHG} (out), 6 VAUX (power), 7 BAT (power), 8 ~{PRES} (in), 9 ~{KEYIN} (in), 10 SAFE (out), 11 SMBD (io), 12 VEN (out), 13 SMBC (io), 14 ~{DISP} (in), 15 PWRM (out), 16 LED1 (out), 17 LED2 (out), 18 LED3 (out), 19 LED4 (out), 20 LED5 (out), 21 GPIO A (io), 22 VSS (power), 23 VSS (power), 24 ~{MRST} (in), 25 VSS (power), 26 VCC (power), 27 RBI (power), 28 GPIO B (io), 29 ADREN (out), 30 SMBA (in)

## IC BNO055
designator U?  MFG_PART_NO: BNO055
IC BNO055; MFG: Adafruit Industries LLC; COST: 50; VALUE: BNO055
footprint BNO055
pins: 1 Vin, 2 3VO, 3 GND, 4 SDA (io), 5 SCL (io), 6 RST (power), 7 ADR, 8 INT, 9 PS1, 10 PS0

## IC CONFIG MULT-FUNC GATE SOT23-6
designator U?  value SN74LVC1G97DBVR
IC CONFIG MULT-FUNC GATE SOT23-6; MFG: TI; COST: 0.58; MFG_PART_NO: SN74LVC1G97DBVR
footprint SOT65P210X110-6N_SN74LVC1G97DCK (SOT23, 6-Leads, Body 2.00x2.10mm, Pitch 0.65mm, IPC Medium Density)
pins: 1 IN1 (in), 2 GND (power), 3 IN0 (in), 4 Y (out), 5 VCC (power), 6 IN2 (in)
text: Configurable Gate

## IC DAC 7BIT A-OUT 8UMAX
designator U?  value DS4432U+
IC DAC 7BIT A-OUT 8UMAX; MFG: Maxim Integrated; MFG_PART_NO: DS4432U+; COST: 1.82
footprint TSOP65P490X110-8N (TSOP, 8-Leads, Body 3.00x3.00mm, Pitch 0.65mm, IPC Medium Density)
pins: 1 SDA (io), 2 SDL (io), 3 FS1 (in), 4 GND (power), 5 FS0 (in), 6 OUT0 (out), 7 OUT1 (out), 8 VCC (power)

## IC GATE DRV HALF-BRDG DFN3030-10
designator U?  MFG_PART_NO: DGD05463FN-7
IC GATE DRV HALF-BRDG DFN3030-10; MFG: Diodes Incorporated; VALUE: DGD05463FN-7; COST: 1.30
footprint SON50P300X300X80-11N-D
pins: 1 VCC (power), 2 VB (power), 3 HO (out), 4 VS (power), 5 NC, 6 DT (in), 7 EN (in), 8 IN (in), 9 COM (power), 10 LO (out), 11 EP (power)

## IC LED DRVR LIN DIM 25MA 28TSSOP
designator U?  MFG_PART_NO: PCA9685PW,112
IC LED DRVR LIN DIM 25MA 28TSSOP; MFG: NXP USA Inc.; VALUE: PCA9685PW,112; COST: 3.46
footprint SOP65P640X110-28N
pins: 1 A0, 2 A1, 3 A2, 4 A3, 5 A4, 6 LED0, 7 LED1, 8 LED2, 9 LED3, 10 LED4, 11 LED5, 12 LED6, 13 LED7, 14 VSS, 15 LED8, 16 LED9, 17 LED10, 18 LED11, 19 LED12, 20 LED13, 21 LED14, 22 LED15, 23 ~{OE}, 24 A5, 25 EXTCLK, 26 SCL, 27 SDA, 28 VDD

## IC OPA2376AIDR
designator U?  value OPA2376AIDR
IC OPAMP GP 5.5MHZ RRO 8SOIC; MFG: TI; COST: 3.82; MFG_PART_NO: OPA2376AIDR
footprint SOIC127P600X175-8N_OPA2376AIDR (SOIC, 8-Leads, Body 4.90x3.90mm, Pitch 1.27mm, IPC Medium Density)
part A pins: 1 OUT (out), 2 -IN (in), 3 +IN (in), 4 V- (power), 8 V+ (power)
part B pins: 5 +IN (in), 6 -IN (in), 7 OUT (out)
part A text: A
part B text: B

## IC OPAMP CURR SENSE 14KHZ SC70-6
designator U?  value INA199A2DCKT  GAIN: GAIN = 100
IC OPAMP CURR SENSE 14KHZ SC70-6; MFG: TE Connectivity AMP Connectors; MFG_PART_NO: INA199A2DCKT; COST: 1.29
footprint TSOP65P240X110-6N (TSOP, 6-Leads, Body 2.15x1.40mm, Pitch 0.65mm, IPC Medium Density)
pins: 1 REF (power), 2 GND (power), 3 V+ (power), 4 IN+ (in), 5 IN- (in), 6 OUT (out)

## IC OPAMP GP 1 CIRCUIT SOT23-5
designator U?  value MCP6001UT-I/OT
IC OPAMP GP 1 CIRCUIT SOT23-5; MFG: Microchip Technology; MFG_PART_NO: MCP6001UT-I/OT; COST: 0.36
footprint SOT95P270X145-5N
pins: 1 IN+ (in), 2 Vss (power), 3 IN- (in), 4 OUT (out), 5 Vdd (power)
1 alternate drawing of the same symbol

## IC REG BOOST ADJUSTABLE 16WQFN
designator U?  MFG_PART_NO: LM51501QRUMTQ1
IC REG BOOST ADJUSTABLE 16WQFN; MFG: Texas Instruments; VALUE: LM51501QRUMTQ1; COST: 3.9
footprint LM51501QRUMTQ1
pins: 1 SYNC (in), 2 STATUS (out), 3 EN (in), 4 VOUT (power), 5 PVCC (power), 6 NC_1, 7 AVCC (power), 8 NC_2, 9 LO (out), 10 PGND (power), 11 AGND (power), 12 CS (in), 13 COMP (out), 14 RT (in), 15 VSET (in), 16 VIN (power), 17 EP (power), A1 AP_1 (power), A2 AP_2 (power), A3 AP_3 (power), A4 AP_4 (power), A12 AP_5 (power), A22 AP_6 (power), A32 AP_7 (power), A42 AP_8 (power)

## IC REG BUCK ADJ 1.5A 10MSOP
designator U?  MFG_PART_NO: TPS54140ADGQR
IC REG BUCK ADJ 1.5A 10MSOP; MFG: Texas Instruments; VALUE: TPS54140ADGQR; COST: 3.87
footprint SOP50P490X110-11N
pins: 1 BOOT (power), 2 VIN, 3 EN (in), 4 SS/TR (in), 5 RT/CLK (in), 6 PWRGD (out), 7 VSENSE (in), 8 COMP, 9 GND (power), 10 PH (power), 11 EP (power)

## IC REG BUCK ADJ 1.25A 10WSON
designator U?  MFG_PART_NO: LM34910CSD/NOPB
IC REG BUCK ADJ 1.25A 10WSON; MFG: Texas Instruments; VALUE: LM34910CSD/NOPB; COST: 4.7
footprint SON80P400X400X80-11N
pins: 1 SW, 2 BST, 3 ISEN, 4 SGND (power), 5 RTN, 6 FB, 7 SS, 8 RON/SD, 9 VCC (power), 10 VIN (power), 11 EP

## IC REG CTRLR MULT TOP 8VSSOP
designator U?  MFG_PART_NO: LM3488MM/NOPB
IC REG CTRLR MULT TOP 8VSSOP; MFG: TI; VALUE: LM3488MM/NOPB; COST: 3.29
footprint SOP65P490X110-8N
pins: 1 ISENSE, 2 COMP, 3 FB, 4 AGND (power), 5 PGND (power), 6 DR, 7 FA/SD, 8 VIN (in)

## IC REG CTRLR MULT TOP 10MSOP
designator U?  MFG_PART_NO: TPS40211DGQR
IC REG CTRLR MULT TOP 10MSOP; MFG: Texas Instruments; VALUE: TPS40211DGQR; COST: 2.47
footprint TSSOP50P490X110_HS-11N (TSSOP, 10-Leads, Body 3.00x3.00mm, Pitch 0.50mm, Thermal Pad 1.88x1.57mm, IPC Medium Density)
pins: 1 RC (in), 2 SS (in), 3 DIS/~EN (in), 4 COMP (out), 5 FB (in), 6 GND (power), 7 ISNS (in), 8 GDRV (out), 9 BP (out), 10 VDD, 11 EP (power)

## IC REG LINEAR 3.3V 1A SOT223
designator U?  value 3.3V 1A  MFG_PART_NO: AP2114H-3.3TRG1
IC REG LINEAR 3.3V 1A SOT223; MFG: Diodes Incorporated; COST: 0.53
footprint SOT230P700X180-4N
pins: 1 GND (power), 2 VOUT (power), 3 VIN (power), 4 VOUT (power)

## IC SYNC SW-MODE BAT CHRGR 16VQFN
designator U?  MFG_PART_NO: BQ24650RVAR
IC SYNC SW-MODE BAT CHRGR 16VQFN; MFG: Texas Instruments; VALUE: BQ24650RVAR; COST: 7.31
footprint RVA16_2P14X2P14
pins: 1 VCC (power), 2 MPPSET (in), 3 STAT1 (out), 4 TS (in), 5 STAT2 (out), 6 VREF (power), 7 TERM_EN (in), 8 VFB (in), 9 SRN (in), 10 SRP (io), 11 GND (power), 12 REGN (power), 13 LODRV (out), 14 PH (power), 15 HIDRV (out), 16 BTST (power), 17 EPAD (power)

## IC USB SERIAL FULL UART 20SSOP
designator U?  MFG_PART_NO: FT231XS-R
IC USB SERIAL FULL UART 20SSOP; MFG: FTDI; VALUE: FT231XS-R; COST: 3.21
footprint SOP64P599X175-20N
pins: 1 DTR#, 2 RTS#, 3 VCCIO (power), 4 RXD (in), 5 RI#, 6 GND (power), 7 DSR#, 8 DCD#, 9 CTS#, 10 CBUS2, 11 USBDP (io), 12 USBDM (io), 13 3V3OUT (power), 14 RESET# (in), 15 VCC (power), 16 GND (power), 17 CBUS1, 18 CBUS0, 19 CBUS3, 20 TXD (out)

## INDUCT ARRAY 2 COIL 9.654UH SMD
designator L?
INDUCT ARRAY 2 COIL 9.654UH SMD; MFG_PART_NO: DRQ125-100-R; MFG: Eaton; VALUE: 9.654µH
footprint DRQ125100R
pins: 1, 2, 3, 4

## INDUCTOR WURTH 7443320470
designator L?  value 4.7uH 15A 6.35mOhm
IND 4.7UH 15.5A 6.35 MOHM 12.1x11.4x10.0mm; MFG_PART_NO: 7443320470; MFG: Wurth; Supplier 1: Digi-Key; Supplier Part Number 1: 732-2142-1-ND; ROHS: Y; STATUS: USED
footprint IND_WURTH_744332 (Footprint not found)
pins: 1, 2

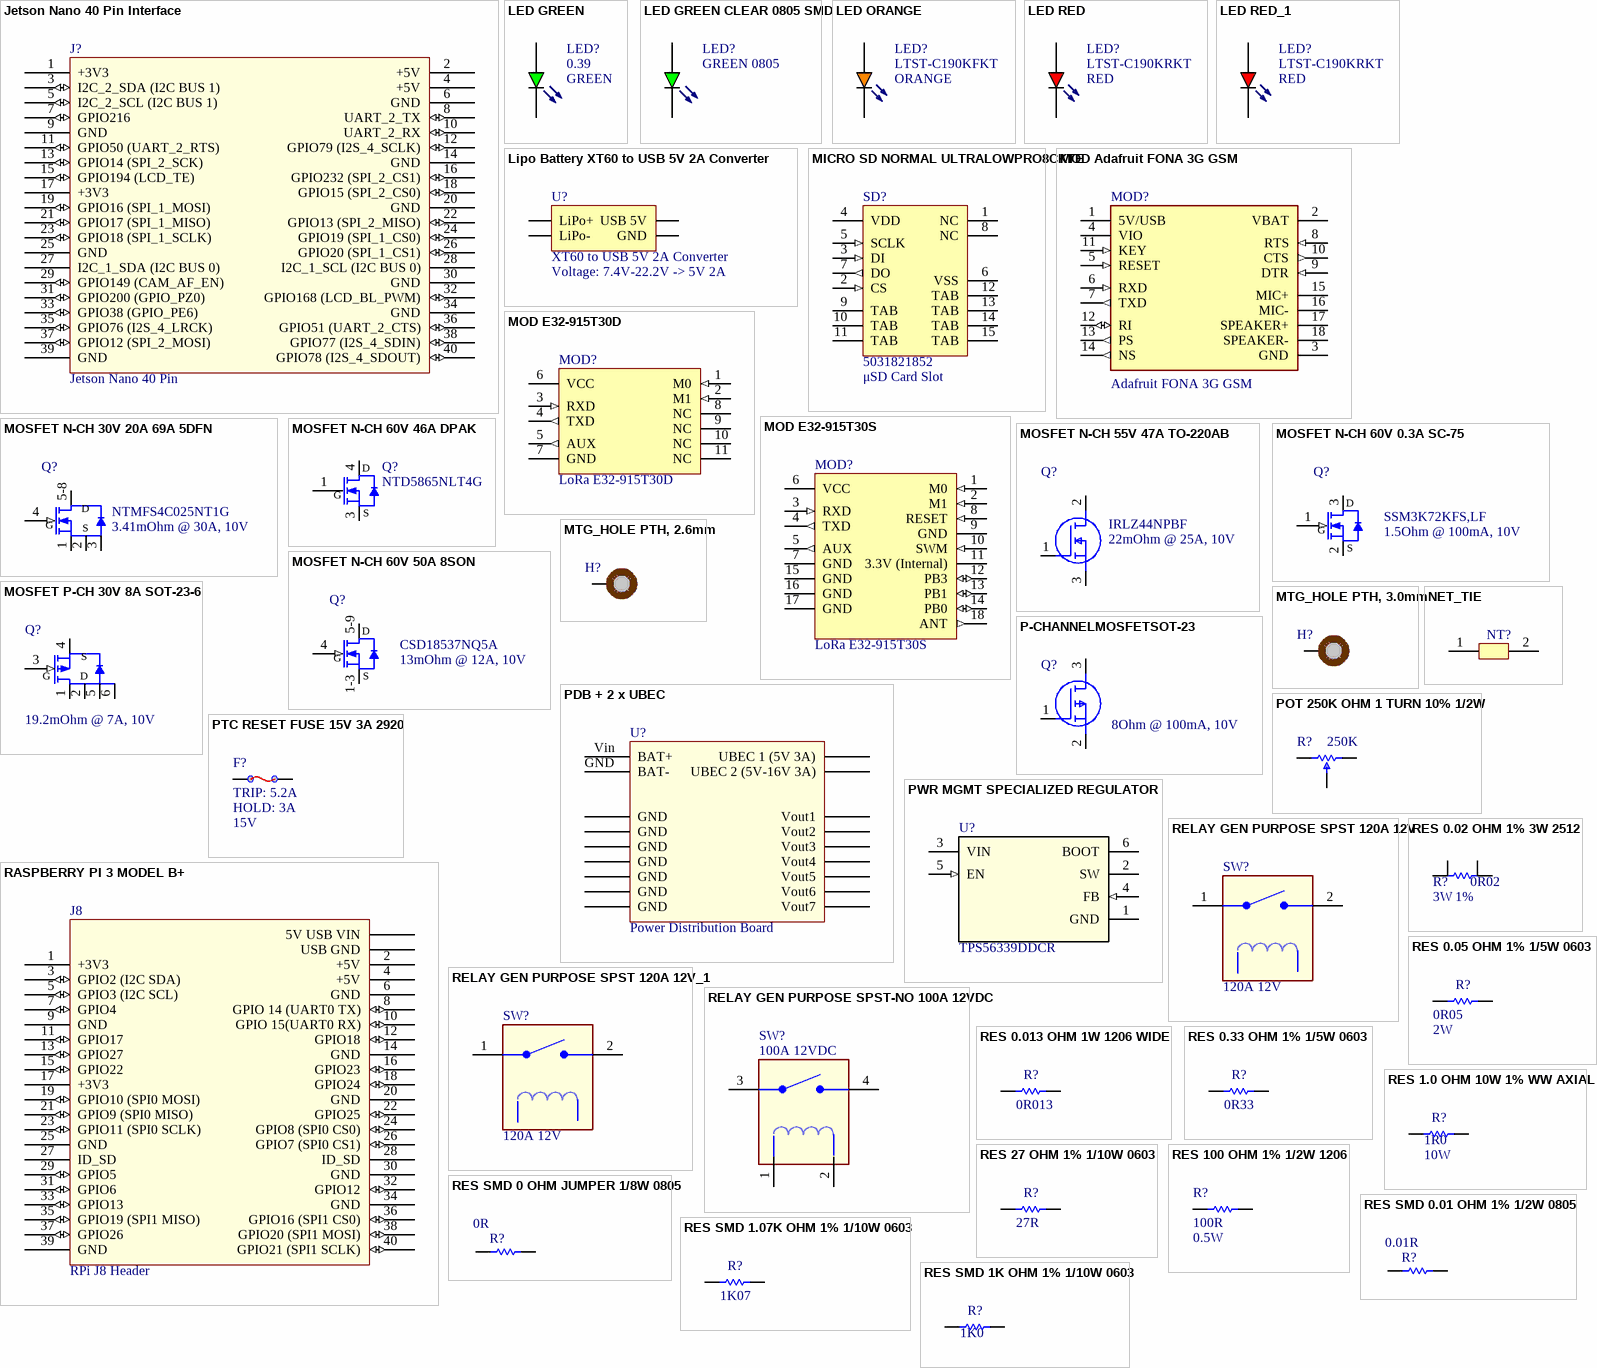
[diagram p3: symbols Jetson Nano 40 Pin Interface to RES SMD 1K OHM 1% 1/10W 0603]

## Jetson Nano 40 Pin Interface
designator J?  value Jetson Nano 40 Pin
Jetson Nano 40 Pin Interface; COST: 60; MFG: Jetson; MFG_PART_NO: Nano
footprint Jetson Nano
pins: 1 +3V3 (power), 2 +5V (power), 3 I2C_2_SDA (I2C BUS 1) (io), 4 +5V (power), 5 I2C_2_SCL (I2C BUS 1) (io), 6 GND (power), 7 GPIO216 (io), 8 UART_2_TX (io), 9 GND (power), 10 UART_2_RX (io), 11 GPIO50 (UART_2_RTS) (io), 12 GPIO79 (I2S_4_SCLK) (io), 13 GPIO14 (SPI_2_SCK) (io), 14 GND (power), 15 GPIO194 (LCD_TE) (io), 16 GPIO232 (SPI_2_CS1) (io), 17 +3V3 (power), 18 GPIO15 (SPI_2_CS0) (io), 19 GPIO16 (SPI_1_MOSI) (io), 20 GND (power), 21 GPIO17 (SPI_1_MISO) (io), 22 GPIO13 (SPI_2_MISO) (io), 23 GPIO18 (SPI_1_SCLK) (io), 24 GPIO19 (SPI_1_CS0) (io), 25 GND (power), 26 GPIO20 (SPI_1_CS1) (io), 27 I2C_1_SDA (I2C BUS 0), 28 I2C_1_SCL (I2C BUS 0), 29 GPIO149 (CAM_AF_EN) (io), 30 GND (power), 31 GPIO200 (GPIO_PZ0) (io), 32 GPIO168 (LCD_BL_PWM) (io), 33 GPIO38 (GPIO_PE6) (io), 34 GND, 35 GPIO76 (I2S_4_LRCK) (io), 36 GPIO51 (UART_2_CTS) (io), 37 GPIO12 (SPI_2_MOSI) (io), 38 GPIO77 (I2S_4_SDIN) (io), 39 GND (power), 40 GPIO78 (I2S_4_SDOUT) (io)

## LED GREEN
designator LED?  value GREEN  MFG_PART_NO: 0.39
LED SUPER GREEN CLEAR 0603 SMD; MFG: Lite-On; COST: 0.05
footprint LED LTST-C190KGKT
pins: A, K

## LED GREEN CLEAR 0805 SMD
designator LED?  value GREEN 0805
LED GREEN CLEAR 0805 SMD; MFG_PART_NO: 150080VS75000; MFG: Würth Elektronik; COST: 0.26
footprint LED0805 (0805, Body 2.00x1.25x1.0mm, IPC Medium Density)
pins: A, K

## LED ORANGE
designator LED?  value ORANGE  MFG_PART_NO: LTST-C190KFKT
LED ORANGE CLEAR CHIP SMD; MFG: Lite-On; COST: 0.34
footprint LED LTST-C190KRKT
pins: A, K

## LED RED
designator LED?  value RED  MFG_PART_NO: LTST-C190KRKT
LED SUPER RED CLEAR 0603 SMD; MFG: Lite-On; COST: 0.39
footprint LED LTST-C190KRKT
pins: A, K

## LED RED_1
designator LED?  value RED  MFG_PART_NO: LTST-C190KRKT
LED SUPER RED CLEAR 0603 SMD; MFG: Lite-On; COST: 0.39
footprint LED LTST-C190KRKT
pins: A, K

## Lipo Battery XT60 to USB 5V 2A Converter
designator U?  value XT60 to USB 5V 2A Converter  Voltage: 7.4V-22.2V -> 5V 2A
Lipo Battery XT60 to USB 5V 2A Converter; MFG_PART_NO: 015000144; COST1K: 27; MFG: LHI; ROHS: Y
pins: 1 LiPo+, 2 LiPo-, 2 GND, 3 USB 5V

## MICRO SD NORMAL ULTRALOWPRO8CKTE
designator SD?, comment μSD Card Slot  value 5031821852
MICRO SD NORMAL ULTRALOWPRO8CKTE; MFG: Maxim Integrated; MFG_PART_NO: 5031821852; COST: 3.41
footprint 5031821852
pins: 1 NC, 2 CS (in), 3 DI (in), 4 VDD (power), 5 SCLK (in), 6 VSS (power), 7 DO (out), 8 NC, 9 TAB (power), 10 TAB (power), 11 TAB (power), 12 TAB (power), 13 TAB (power), 14 TAB (power), 15 TAB (power)

## MOD Adafruit FONA 3G GSM
designator MOD?  value Adafruit FONA 3G GSM
MOD Adafruit FONA 3G GSM; MFG_PART_NO: 2687; MFG: Adafruit; COST: 100
footprint SHDR18W80P0X254_1X18_4623X254X870P
pins: 1 5V/USB (power), 2 VBAT (power), 3 GND (power), 4 VIO (power), 5 RESET (in), 6 RXD (in), 7 TXD (out), 8 RTS (in), 9 DTR (in), 10 CTS (out), 11 KEY (in), 12 RI (io), 13 PS (out), 14 NS (out), 15 MIC+ (power), 16 MIC- (power), 17 SPEAKER+ (power), 18 SPEAKER- (power)

## MOD E32-915T30D
designator MOD?  value LoRa E32-915T30D
MOD E32-915T30D; MFG: Ebyte; COST: 9; MFG_PART_NO: E32-915T30D
footprint E32-915T30D
pins: 1 M0 (in), 2 M1 (in), 3 RXD (in), 4 TXD (out), 5 AUX (out), 6 VCC (power), 7 GND (power), 8 NC, 9 NC, 10 NC, 11 NC

## MOD E32-915T30S
designator MOD?  value LoRa E32-915T30S
MOD E32-915T30S; MFG: Ebyte; COST: 9; MFG_PART_NO: E32-915T30S
footprint E32-915T30S
pins: 1 M0 (in), 2 M1 (in), 3 RXD (in), 4 TXD (out), 5 AUX (out), 6 VCC (power), 7 GND (power), 8 RESET (in), 9 GND (power), 10 SWM (in), 11 3.3V (Internal) (power), 12 PB3 (io), 13 PB1 (io), 14 PB0 (io), 15 GND (power), 16 GND (power), 17 GND (power), 18 ANT (out)

## MOSFET N-CH 30V 20A 69A 5DFN
designator Q?  value 3.41mOhm @ 30A, 10V  MFG_PART_NO: NTMFS4C025NT1G
MOSFET N-CH 30V 20A 69A 5DFN; MFG: ON Semiconductor; COST: 0.72
footprint DFN500X600X110-5N
pins: 1 S (power), 2 S (power), 3 S (power), 4 G (in), 5-8 D (power)

## MOSFET N-CH 55V 47A TO-220AB
designator Q?  value 22mOhm @ 25A, 10V  MFG_PART_NO: IRLZ44NPBF
MOSFET N-CH 55V 47A TO-220AB; MFG: Infineon Technologies; COST: 1.47
footprint TO254P469X1042X1967-3P
pins: 1 G, 2 D, 3 S

## MOSFET N-CH 60V 0.3A SC-75
designator Q?  value 1.5Ohm @ 100mA, 10V  MFG_PART_NO: SSM3K72KFS,LF
MOSFET N-CH 60V 0.3A SC-75; MFG: Toshiba; COST: 0.28
footprint SC-75_SSM3K72K
pins: 1 G (in), 2 S (power), 3 D (power)

## MOSFET N-CH 60V 46A DPAK
designator Q?  MFG_PART_NO: NTD5865NLT4G
MOSFET N-CH 60V 46A DPAK; MFG: ON Semiconductor; VALUE: 16mOhm @ 20A, 10V; COST: 0.97
footprint TO229P990X238-4N
pins: 1 G (hiz), 3 S (power), 4 D (power)

## MOSFET N-CH 60V 50A 8SON
designator Q?  value 13mOhm @ 12A, 10V  MFG_PART_NO: CSD18537NQ5A
MOSFET N-CH 60V 50A 8SON; MFG: Texas Instruments; COST: 1.25
footprint Q5A_VSON-FET
pins: 1-3 S (power), 4 G (in), 5-9 D (power)

## MOSFET P-CH 30V 8A SOT-23-6
designator Q?  value 19.2mOhm @ 7A, 10V
MOSFET P-CH 30V 8A SOT-23-6; MFG_PART_NO: SI3421DV-T1-GE3; MFG: Vishay Siliconix; COST: 0.73
footprint SOT-23-6_SI3421DV-T1-GE3 (SOT-23-6 3.05x1.65x1.00)
pins: 1 D (power), 2 D (power), 3 G (in), 4 S (power), 5 D (power), 6 D (power)

## MTG_HOLE PTH, 2.6mm
designator H?  (no BOM)
PTH, 2.6mm; VALUE: PTH_2.6MM
footprint MH_PTH_H2.6mmXP7.0mm (Plated Through Hole, 2.6mm hole x 7.0mm pad)
pins: 1

## MTG_HOLE PTH, 3.0mm
designator H?  (no BOM)
PTH, 3.0mm; VALUE: PTH_3.0MM
footprint MH_PTH_H3.0mmXP6.0mm (Plated Through Hole, 3.0mm hole x 6.0mm pad)
pins: 1

## NET_TIE
designator NT?  (net tie, no BOM)
Net Tie
footprint NET_TIE_1x2mm (Footprint not found)
footprint NET_TIE_5x10mil (Net Tie 2 5x5mil Pads)
pins: 1, 2

## P-CHANNELMOSFETSOT-23
designator Q?  value 8Ohm @ 100mA, 10V
P-CHANNELMOSFETSOT-23; MFG_PART_NO: BSS84-TP; MFG: Micro Commercial Co; COST: 0.72
footprint SI2305TP
pins: 1 G, 2 S, 3 D

## PDB + 2 x UBEC
designator U?  value Power Distribution Board
PDB + 2 x UBEC; MFG_PART_NO: 747000004; COST1K: 13.75; MFG: hobbyking; ROHS: Y
pins: ?1 Vout1 (power), ?2 GND (power), ?3 Vout2 (power), ?4 GND (power), ?5 Vout3 (power), ?6 GND (power), ?7 Vout6 (power), ?8 Vout5 (power), ?9 Vout4 (power), ?10 GND (power), ?11 GND (power), ?12 Vout7 (power), ?13 UBEC 1 (5V 3A) (power), ?14 UBEC 2 (5V-16V 3A) (power), ?15 GND (power), ?16 GND (power), GND BAT- (power), Vin BAT+ (power)

## POT 250K OHM 1 TURN 10% 1/2W
designator R?  value 250K
POT 250K OHM 1 TURN 10% 1/2W 100PPM THROUGH HOLE; MFG_PART_NO: 3362P-1-254LF; MFG: Bourns Inc; POWER: 0.5W; COST: 1.54
footprint TRIM_3362P
pins: 1, 2, 3

## PTC RESET FUSE 15V 3A 2920
designator F?  HOLD: 3A  TRIP: 5.2A  VOLTAGE: 15V
PTC RESET FUSE 15V 3A 2920; MFG_PART_NO: 0ZCF0300AF2C; MFG: Bel Fuse Inc.; VALUE: 0686F5000-01; COST: 0.57
footprint FUSC7451X115N
pins: 1, 2

## PWR MGMT SPECIALIZED REGULATOR
designator U?  MFG_PART_NO: TPS56339DDCR
PWR MGMT SPECIALIZED REGULATOR; MFG: Texas Instruments; VALUE: TPS56339DDCR; COST: 1.95
footprint DDC0006A_N
pins: 1 GND (power), 2 SW (power), 3 VIN (power), 4 FB (in), 5 EN (in), 6 BOOT (power)

## RASPBERRY PI 3 MODEL B+
designator J8  value RPi J8 Header
RASPBERRY PI 3 MODEL B+; COST1K: 60; MFG: Raspberry Pi; MFG_PART_NO: RASPBERRY PI 3 MODEL B+; ROHS: Y
pins: 1 +3V3 (power), 2 +5V (power), 3 GPIO2 (I2C SDA) (io), 4 +5V (power), 5 GPIO3 (I2C SCL) (io), 6 GND (power), 7 GPIO4 (io), 8 GPIO 14 (UART0 TX) (io), 9 GND (power), 10 GPIO 15(UART0 RX) (io), 11 GPIO17 (io), 12 GPIO18 (io), 13 GPIO27 (io), 14 GND (power), 15 GPIO22 (io), 16 GPIO23 (io), 17 +3V3 (power), 18 GPIO24 (io), 19 GPIO10 (SPI0 MOSI) (io), 20 GND (power), 21 GPIO9 (SPI0 MISO) (io), 22 GPIO25 (io), 23 GPIO11 (SPI0 SCLK) (io), 24 GPIO8 (SPI0 CS0) (io), 25 GND (power), 26 GPIO7 (SPI0 CS1) (io), 27 ID_SD, 28 ID_SD, 29 GPIO5 (io), 30 GND (power), 31 GPIO6 (io), 32 GPIO12 (io), 33 GPIO13 (io), 34 GND, 35 GPIO19 (SPI1 MISO) (io), 36 GPIO16 (SPI1 CS0) (io), 37 GPIO26 (io), 38 GPIO20 (SPI1 MOSI) (io), 39 GND (power), 40 GPIO21 (SPI1 SCLK) (io), ?1 5V USB VIN (power), ?2 USB GND (power)

## RELAY GEN PURPOSE SPST 120A 12V
designator SW?  value 120A 12V
RELAY GEN PURPOSE SPST 120A 12V; MFG_PART_NO: G9TB-U1ATW-E DC12; MFG: Omron; COST: 23.27
footprint G9TB-U1ATW-E DC12
pins: 1 (power), 2 (power)

## RELAY GEN PURPOSE SPST 120A 12V_1
designator SW?  value 120A 12V
RELAY GEN PURPOSE SPST 120A 12V; MFG_PART_NO: G9TB-U1ATW-E DC12; MFG: Omron; COST: 23.27
footprint G9TB-U1ATW-E DC12
pins: 1 (power), 2 (power)

## RELAY GEN PURPOSE SPST-NO 100A 12VDC
designator SW?  value 100A 12VDC
RELAY GEN PURPOSE SPST-NO 100A 12VDC; MFG_PART_NO: G7EB-1A DC12; MFG: Omron; COST: 42.86
footprint G7EB-1A DC12
pins: 1 (power), 2 (power), 3 (power), 4 (power)

## RES 0.02 OHM 1% 3W 2512
designator R?  value 0R02  TOLERANCE: 1%  POWER: 3W
RES 0.02 OHM 1% 3W 2512; MFG_PART_NO: CRA2512-FZ-R020ELF; MFG: Bourns Inc.; COST: 1.01
footprint RESC6432X09M (Chip Resistor, 2-Leads, Body 6.40x3.20mm, IPC Low Density (2512))
pins: 1, 1, 2, 2

## RES 0.05 OHM 1% 1/5W 0603
designator R?  value 0R05  POWER: 2W
RES 0.05 OHM 1% 1/5W 0603; MFG_PART_NO: ERJ-L03KF50MV; MFG: Panasonic; COST: 0.79; TOLERANCE: 1%
footprint RESC1608X06N (0603, Body 1.5x0.8x0.55mm, IPC Medium Density)
pins: 1, 2

## RES 0.013 OHM 1W 1206 WIDE
designator R?  value 0R013
RES 0.013 OHM 1W 1206 WIDE; MFG_PART_NO: PRL1632-R013-F-T1; MFG: Susumu; TOLERANCE: 1%; COST: 1
footprint RESC1632X60N
pins: 1, 2

## RES 0.33 OHM 1% 1/5W 0603
designator R?  value 0R33
RES 0.33 OHM 1% 1/5W 0603; MFG_PART_NO: RCWE0603R330FKEA; MFG: Vishay Dale; COST: 0.88; TOLERANCE: 1%
footprint RESC1608X06N (0603, Body 1.5x0.8x0.55mm, IPC Medium Density)
pins: 1, 2

## RES 1.0 OHM 10W 1% WW AXIAL
designator R?  value 1R0  Power: 10W
RES 1.0 OHM 10W 1% WW AXIAL; MFG_PART_NO: RS0101R000FE73; MFG: Vishay Dale; COST: 4.05; TOLERANCE: 1%
footprint RESC1608X06N (0603, Body 1.5x0.8x0.55mm, IPC Medium Density)
pins: 1, 2

## RES 27 OHM 1% 1/10W 0603
designator R?  value 27R
RES 27 OHM 1% 1/10W 0603; MFG_PART_NO: RMCF0603FT27R0; MFG: Stackpole Electronics Inc; COST: 0.15; TOLERANCE: 1%
footprint RESC1608X06N (0603, Body 1.5x0.8x0.55mm, IPC Medium Density)
pins: 1, 2

## RES 100 OHM 1% 1/2W 1206
designator R?  value 100R  POWER: 0.5W
RES 100 OHM 1% 1/2W 1206; MFG_PART_NO: RNCP1206FTD100R; MFG: Stackpole Electronics Inc; COST: 0.15; TOLERANCE: 1%
footprint RESC3116X06N (1206, Body 3.10x1.60x0.65mm, IPC Medium Density)
pins: 1, 2

## RES SMD 0 OHM JUMPER 1/8W 0805
designator R?  value 0R
RES SMD 0 OHM JUMPER 1/8W 0805; MFG_PART_NO: ERJ-6GEY0R00V; MFG: Panasonic; COST: 0.15
footprint RESC2012X07N (0805, Body 2.0x1.3x0.7mm, IPC Medium Density)
pins: 1, 2

## RES SMD 0.01 OHM 1% 1/2W 0805
designator R?  value 0.01R
RES SMD 0.01 OHM 1% 1/2W 0805; MFG_PART_NO: CRF0805-FZ-R010ELF; MFG: Bourns Inc.; COST: 0.86
footprint RESC2012X07N (0805, Body 2.0x1.3x0.7mm, IPC Medium Density)
pins: 1, 2

## RES SMD 1.07K OHM 1% 1/10W 0603
designator R?  value 1K07
RES SMD 1.07K OHM 1% 1/10W 0603; MFG_PART_NO: RC0603FR-071K07L; MFG: Yageo; COST: 0.15; TOLERANCE: 1%
footprint RESC1608X06N (0603, Body 1.5x0.8x0.55mm, IPC Medium Density)
pins: 1, 2

## RES SMD 1K OHM 1% 1/10W 0603
designator R?  value 1K0
RES SMD 1K OHM 1% 1/10W 0603; MFG_PART_NO: RMCF0603FT1K00; MFG: Stackpole; COST: 0.15; TOLERANCE: 1%
footprint RESC1608X06N (0603, Body 1.5x0.8x0.55mm, IPC Medium Density)
pins: 1, 2

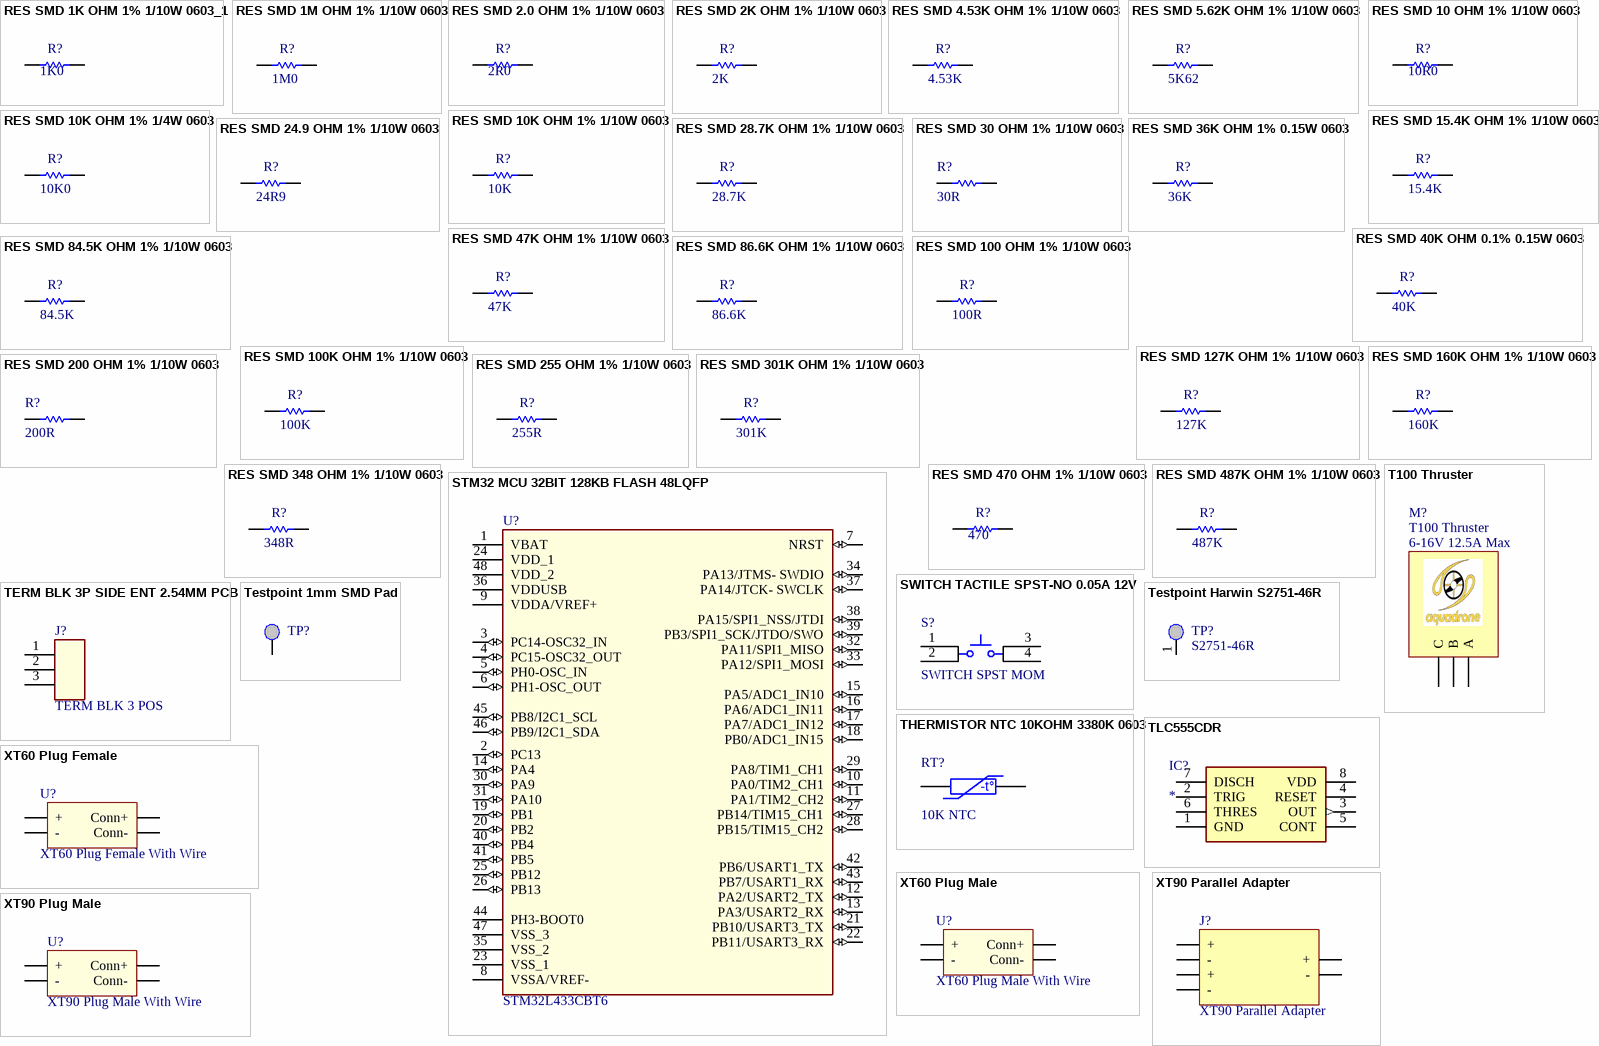
[diagram p4: symbols RES SMD 1K OHM 1% 1/10W 0603_1 to XT90 Plug Male]

## RES SMD 1K OHM 1% 1/10W 0603_1
designator R?  value 1K0
RES SMD 1K OHM 1% 1/10W 0603; MFG_PART_NO: RMCF0603FT1K00; MFG: Stackpole; COST: 0.15; TOLERANCE: 1%
footprint RESC1608X06N (0603, Body 1.5x0.8x0.55mm, IPC Medium Density)
pins: 1, 2

## RES SMD 1M OHM 1% 1/10W 0603
designator R?  value 1M0
RES SMD 1M OHM 1% 1/10W 0603; MFG_PART_NO: RC0603FR-071ML; MFG: Yageo; COST: 0.15; TOLERANCE: 1%
footprint RESC1608X06N (0603, Body 1.5x0.8x0.55mm, IPC Medium Density)
pins: 1, 2

## RES SMD 2.0 OHM 1% 1/10W 0603
designator R?  value 2R0
RES SMD 2.0 OHM 1% 1/10W 0603; MFG_PART_NO: RC0603FR-072RL; MFG: Yageo; COST: 0.15; TOLERANCE: 1%
footprint RESC1608X06N (0603, Body 1.5x0.8x0.55mm, IPC Medium Density)
pins: 1, 2

## RES SMD 2K OHM 1% 1/10W 0603
designator R?  value 2K
RES SMD 2K OHM 1% 1/10W 0603; MFG_PART_NO: RC0603FR-072KL; MFG: Yageo; COST: 0.15; TOLERANCE: 1%
footprint RESC1608X06N (0603, Body 1.5x0.8x0.55mm, IPC Medium Density)
pins: 1, 2

## RES SMD 4.53K OHM 1% 1/10W 0603
designator R?  value 4.53K
RES SMD 4.53K OHM 1% 1/10W 0603; MFG_PART_NO: RC0603FR-074K53L; MFG: Yageo; COST: 0.15; TOLERANCE: 1%
footprint RESC1608X06N (0603, Body 1.5x0.8x0.55mm, IPC Medium Density)
pins: 1, 2

## RES SMD 5.62K OHM 1% 1/10W 0603
designator R?  value 5K62
RES SMD 5.62K OHM 1% 1/10W 0603; MFG_PART_NO: RC0603FR-075K62L; MFG: Yageo; COST: 0.15; TOLERANCE: 1%
footprint RESC1608X06N (0603, Body 1.5x0.8x0.55mm, IPC Medium Density)
pins: 1, 2

## RES SMD 10 OHM 1% 1/10W 0603
designator R?  value 10R0
RES SMD 10 OHM 1% 1/10W 0603; MFG_PART_NO: RC0603FR-0710RL; MFG: Yageo; COST: 0.15; TOLERANCE: 1%
footprint RESC1608X06N (0603, Body 1.5x0.8x0.55mm, IPC Medium Density)
pins: 1, 2

## RES SMD 10K OHM 1% 1/4W 0603
designator R?  value 10K0
RES SMD 10K OHM 1% 1/4W 0603; MFG_PART_NO: ESR03EZPF1002; MFG: Rohm; COST: 0.2; TOLERANCE: 1%
footprint RESC1608X06N (0603, Body 1.5x0.8x0.55mm, IPC Medium Density)
pins: 1, 2

## RES SMD 10K OHM 1% 1/10W 0603
designator R?  value 10K
RES SMD 10K OHM 1% 1/10W 0603; MFG_PART_NO: CRCW060310K0FKEA; MFG: Vishay Dale; COST: 0.15; TOLERANCE: 1%
footprint RESC1608X06N (0603, Body 1.5x0.8x0.55mm, IPC Medium Density)
pins: 1, 2

## RES SMD 15.4K OHM 1% 1/10W 0603
designator R?  value 15.4K
RES SMD 15.4K OHM 1% 1/10W 0603; MFG_PART_NO: RC0603FR-0715K4L; MFG: Yageo; COST: 0.15; TOLERANCE: 1%
footprint RESC1608X06N (0603, Body 1.5x0.8x0.55mm, IPC Medium Density)
pins: 1, 2

## RES SMD 24.9 OHM 1% 1/10W 0603
designator R?  value 24R9
RES SMD 24.9 OHM 1% 1/10W 0603; MFG_PART_NO: RC0603FR-0724R9L; MFG: Yageo; COST: 0.15; TOLERANCE: 1%
footprint RESC1608X06N (0603, Body 1.5x0.8x0.55mm, IPC Medium Density)
pins: 1, 2

## RES SMD 28.7K OHM 1% 1/10W 0603
designator R?  value 28.7K
RES SMD 28.7K OHM 1% 1/10W 0603; MFG_PART_NO: RC0603FR-0728K7L; MFG: Yageo; COST: 0.15; TOLERANCE: 1%
footprint RESC1608X06N (0603, Body 1.5x0.8x0.55mm, IPC Medium Density)
pins: 1, 2

## RES SMD 30 OHM 1% 1/10W 0603
designator R?  value 30R
RES SMD 30 OHM 1% 1/10W 0603; MFG_PART_NO: RC0603FR-0730RL; MFG: Yageo; COST: 0.15
footprint RESC1608X06N (0603, Body 1.5x0.8x0.55mm, IPC Medium Density)
pins: 1, 2

## RES SMD 36K OHM 1% 0.15W 0603
designator R?  value 36K
RES SMD 36K OHM 1% 0.15W 0603; MFG_PART_NO: RC0603FR-0736KL; MFG: Yageo; COST: 0.15; TOLERANCE: 1%
footprint RESC1608X06N (0603, Body 1.5x0.8x0.55mm, IPC Medium Density)
pins: 1, 2

## RES SMD 40K OHM 0.1% 0.15W 0603
designator R?  value 40K
RES SMD 40K OHM 0.1% 0.15W 0603; MFG_PART_NO: PAT0603E4002BST1; MFG: Vishay Thin Film; COST: 1.46; TOLERANCE: 0.1%
footprint RESC1608X06N (0603, Body 1.5x0.8x0.55mm, IPC Medium Density)
pins: 1, 2

## RES SMD 47K OHM 1% 1/10W 0603
designator R?  value 47K
RES SMD 47K OHM 1% 1/10W 0603; MFG_PART_NO: RC0603FR-0747KL; MFG: Yageo; COST: 0.15; TOLERANCE: 1%
footprint RESC1608X06N (0603, Body 1.5x0.8x0.55mm, IPC Medium Density)
pins: 1, 2

## RES SMD 84.5K OHM 1% 1/10W 0603
designator R?  value 84.5K
RES SMD 84.5K OHM 1% 1/10W 0603; MFG_PART_NO: RC0603FR-0784K5L; MFG: Yageo; COST: 0.15; TOLERANCE: 1%
footprint RESC1608X06N (0603, Body 1.5x0.8x0.55mm, IPC Medium Density)
pins: 1, 2

## RES SMD 86.6K OHM 1% 1/10W 0603
designator R?  value 86.6K
RES SMD 86.6K OHM 1% 1/10W 0603; MFG_PART_NO: RC0603FR-0786K6L; MFG: Yageo; COST: 0.15; TOLERANCE: 1%
footprint RESC1608X06N (0603, Body 1.5x0.8x0.55mm, IPC Medium Density)
pins: 1, 2

## RES SMD 100 OHM 1% 1/10W 0603
designator R?  value 100R
RES SMD 100 OHM 1% 1/10W 0603; MFG_PART_NO: RC0603FR-07100RL; MFG: Yageo; COST: 0.15; TOLERANCE: 1%
footprint RESC1608X06N (0603, Body 1.5x0.8x0.55mm, IPC Medium Density)
pins: 1, 2

## RES SMD 100K OHM 1% 1/10W 0603
designator R?  value 100K
RES SMD 100K OHM 1% 1/10W 0603; MFG_PART_NO: ERJ-3EKF1003V; MFG: Panasonic; COST: 0.15; TOLERANCE: 1%
footprint RESC1608X06N (0603, Body 1.5x0.8x0.55mm, IPC Medium Density)
pins: 1, 2

## RES SMD 127K OHM 1% 1/10W 0603
designator R?  value 127K
RES SMD 127K OHM 1% 1/10W 0603; MFG_PART_NO: CRCW0603127KFKEA; MFG: Vishay Dale; COST: 0.15; TOLERANCE: 1%
footprint RESC1608X06N (0603, Body 1.5x0.8x0.55mm, IPC Medium Density)
pins: 1, 2

## RES SMD 160K OHM 1% 1/10W 0603
designator R?  value 160K
RES SMD 160K OHM 1% 1/10W 0603; MFG_PART_NO: RC0603FR-07160KL; MFG: Yageo; COST: 0.15; TOLERANCE: 1%
footprint RESC1608X06N (0603, Body 1.5x0.8x0.55mm, IPC Medium Density)
pins: 1, 2